# Altium integrated library Diod.IntLib: 491 symbols (part 1 of 2)
Pins are listed as number, name and electrical type; pins without a type are passive.

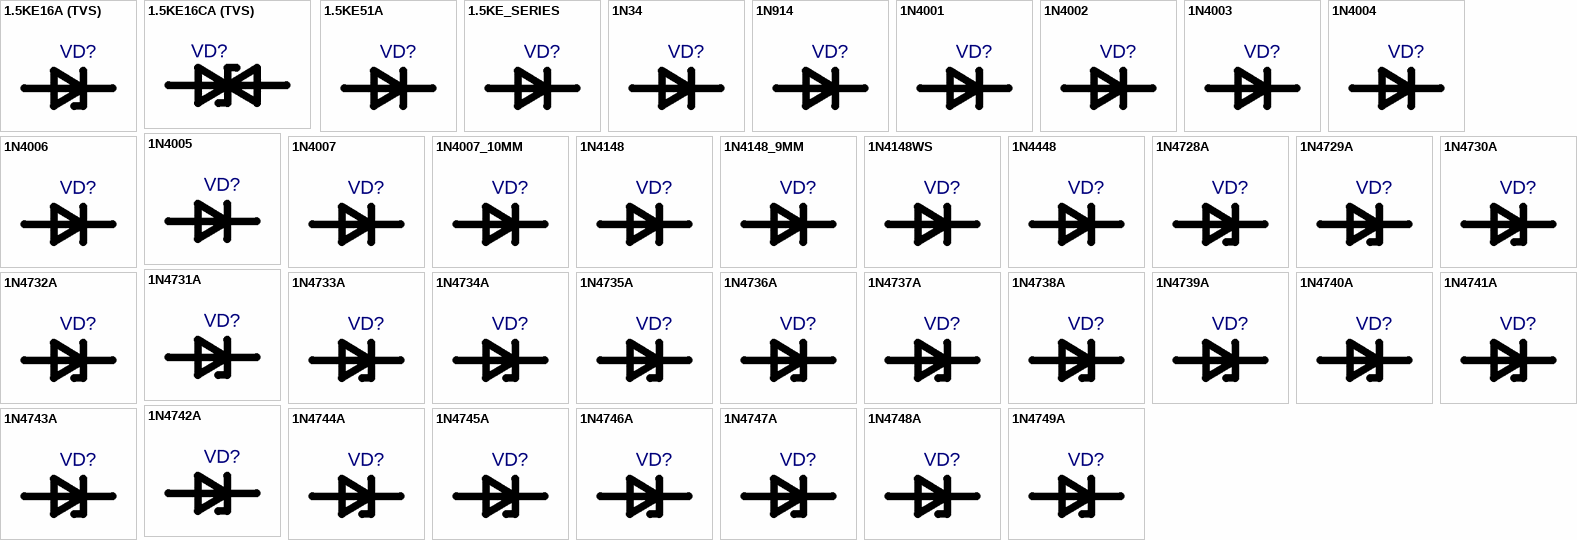
[diagram p0: symbols 1.5KE16A (TVS) to 1N4749A]

## 1.5KE16A (TVS)
designator VD?  (value not drawn)
Value: *
footprint DO-201_1.5KE16A (TVS)(Primary)
pins: A 1, K 2

## 1.5KE16CA (TVS)
designator VD?  (value not drawn)
Value: *
footprint DO-201
pins: 1, 2

## 1.5KE51A
designator VD?  (value not drawn)
Value: *
footprint DO-27_1.5KE51A(Primary)
pins: A 1, K 2

## 1.5KE_SERIES
designator VD?  (value not drawn)
Value: *
footprint DO-201_1.5KE_SERIES(Primary)
pins: A 1, K 2

## 1N34
designator VD?  (value not drawn)
Value: *
footprint DO-7_1N34(Primary)
pins: A, K

## 1N914
designator VD?  (value not drawn)
Value: *
footprint DO-35_1N914(Primary)
pins: A, K

## 1N4001
designator VD?  (value not drawn)
Value: *
footprint DO-41(DO-204AL)_1N4001(Primary)
pins: A 1, K 2

## 1N4002
designator VD?  (value not drawn)
Value: *
footprint DO-41(DO-204AL)_1N4002(Primary)
pins: A 1, K 2

## 1N4003
designator VD?  (value not drawn)
Value: *
footprint DO-41(DO-204AL)_1N4003(Primary)
pins: A 1, K 2

## 1N4004
designator VD?  (value not drawn)
Value: *
footprint DO-41(DO-204AL)_1N4004(Primary)
pins: A 1, K 2

## 1N4005
designator VD?  (value not drawn)
Value: *
footprint DO-41(DO-204AL)_1N4005(Primary)
pins: A 1, K 2

## 1N4006
designator VD?  (value not drawn)
Value: *
footprint DO-41(DO-204AL)_1N4006(Primary)
pins: A 1, K 2

## 1N4007
designator VD?  (value not drawn)
Value: *
footprint DO-41(DO-204AL)_1N4007(Primary)
pins: A 1, K 2

## 1N4007_10MM
designator VD?  (value not drawn)
Value: *
footprint DO-41(DO-204AL)_10MM_1N4007_10MM(Primary)
pins: A, K

## 1N4148
designator VD?  (value not drawn)
Value: *
footprint SOD27_1N4148(Primary)
pins: A, K

## 1N4148_9MM
designator VD?  (value not drawn)
Value: *
footprint SOD27_9MM_1N4148_9MM(Primary)
pins: A, K

## 1N4148WS
designator VD?  (value not drawn)
Value: *
footprint SOD-323_1N4148WS(Primary)
pins: A, K

## 1N4448
designator VD?  (value not drawn)
Value: *
footprint SOD27_1N4448(Primary)
pins: A, K

## 1N4728A
designator VD?  (value not drawn)
Value: *
footprint DO-41(DO-204AL)
pins: 1 A, 2 K

## 1N4729A
designator VD?  (value not drawn)
Value: *
footprint DO-41(DO-204AL)
pins: 1 A, 2 K

## 1N4730A
designator VD?  (value not drawn)
Value: *
footprint DO-41(DO-204AL)
pins: 1 A, 2 K

## 1N4731A
designator VD?  (value not drawn)
Value: *
footprint DO-41(DO-204AL)
pins: 1 A, 2 K

## 1N4732A
designator VD?  (value not drawn)
Value: *
footprint DO-41(DO-204AL)
pins: 1 A, 2 K

## 1N4733A
designator VD?  (value not drawn)
Value: *
footprint DO-41(DO-204AL)
pins: 1 A, 2 K

## 1N4734A
designator VD?  (value not drawn)
Value: *
footprint DO-41(DO-204AL)
pins: 1 A, 2 K

## 1N4735A
designator VD?  (value not drawn)
Value: *
footprint DO-41(DO-204AL)
pins: 1 A, 2 K

## 1N4736A
designator VD?  (value not drawn)
Value: *
footprint DO-41(DO-204AL)
pins: 1 A, 2 K

## 1N4737A
designator VD?  (value not drawn)
Value: *
footprint DO-41(DO-204AL)
pins: 1 A, 2 K

## 1N4738A
designator VD?  (value not drawn)
Value: *
footprint DO-41(DO-204AL)
pins: 1 A, 2 K

## 1N4739A
designator VD?  (value not drawn)
Value: *
footprint DO-41(DO-204AL)
pins: 1 A, 2 K

## 1N4740A
designator VD?  (value not drawn)
Value: *
footprint DO-41(DO-204AL)
pins: 1 A, 2 K

## 1N4741A
designator VD?  (value not drawn)
Value: *
footprint DO-41(DO-204AL)
pins: 1 A, 2 K

## 1N4742A
designator VD?  (value not drawn)
Value: *
footprint DO-41(DO-204AL)
pins: 1 A, 2 K

## 1N4743A
designator VD?  (value not drawn)
Value: *
footprint DO-41(DO-204AL)
pins: 1 A, 2 K

## 1N4744A
designator VD?  (value not drawn)
Value: *
footprint DO-41(DO-204AL)
pins: 1 A, 2 K

## 1N4745A
designator VD?  (value not drawn)
Value: *
footprint DO-41(DO-204AL)
pins: 1 A, 2 K

## 1N4746A
designator VD?  (value not drawn)
Value: *
footprint DO-41(DO-204AL)
pins: 1 A, 2 K

## 1N4747A
designator VD?  (value not drawn)
Value: *
footprint DO-41(DO-204AL)
pins: 1 A, 2 K

## 1N4748A
designator VD?  (value not drawn)
Value: *
footprint DO-41(DO-204AL)
pins: 1 A, 2 K

## 1N4749A
designator VD?  (value not drawn)
Value: *
footprint DO-41(DO-204AL)
pins: 1 A, 2 K

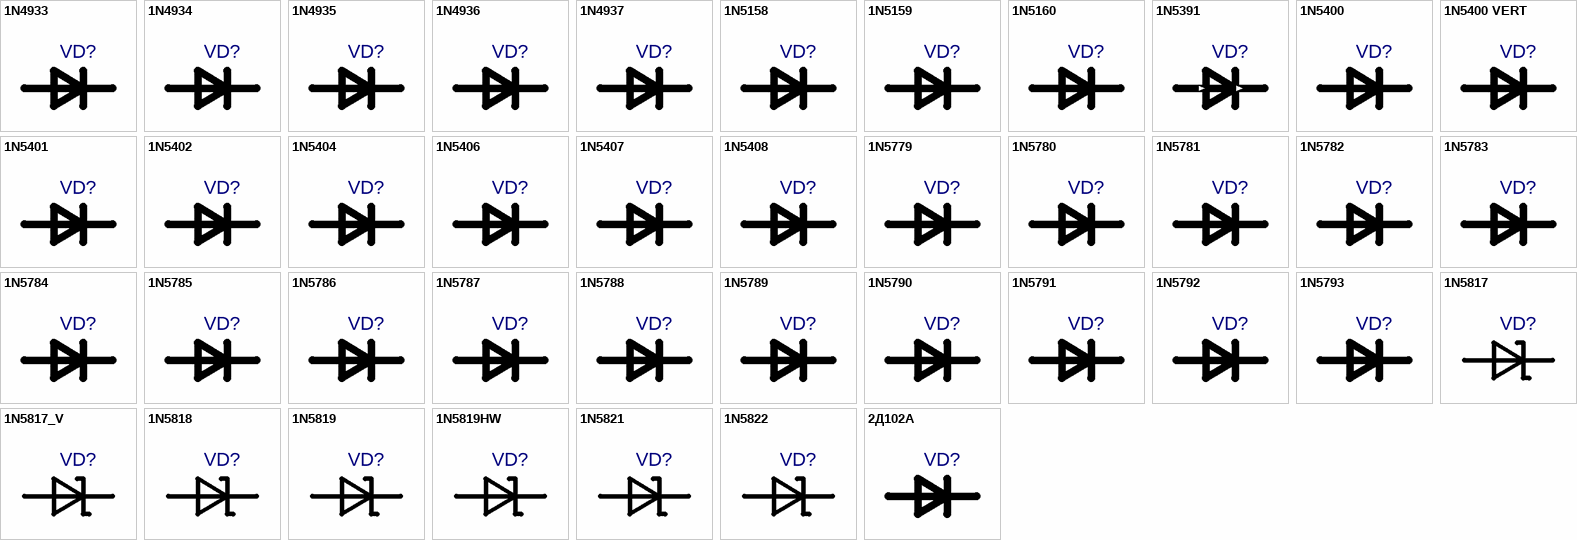
[diagram p1: symbols 1N4933 to 2Д102А]

## 1N4933
designator VD?  (value not drawn)
Value: *
footprint DO-41(DO-204AL)_1N4933(Primary)
pins: A 1, K 2

## 1N4934
designator VD?  (value not drawn)
Value: *
footprint DO-41(DO-204AL)_1N4934(Primary)
pins: A 1, K 2

## 1N4935
designator VD?  (value not drawn)
Value: *
footprint DO-41(DO-204AL)_1N4935(Primary)
pins: A 1, K 2

## 1N4936
designator VD?  (value not drawn)
Value: *
footprint DO-41(DO-204AL)_1N4936(Primary)
pins: A 1, K 2

## 1N4937
designator VD?  (value not drawn)
Value: *
footprint DO-41(DO-204AL)_1N4937(Primary)
pins: A 1, K 2

## 1N5158
designator VD?  (value not drawn)
Value: *
footprint DO-7_1N5158(Primary)
pins: A 1, K 2

## 1N5159
designator VD?  (value not drawn)
Value: *
footprint DO-7_1N5159(Primary)
pins: A 1, K 2

## 1N5160
designator VD?  (value not drawn)
Value: *
footprint DO-7_1N5160(Primary)
pins: A 1, K 2

## 1N5391
designator VD?  (value not drawn)
Value: *
footprint DO-15_1N5391(Primary)
pins: A (in), K (out)

## 1N5400
designator VD?  (value not drawn)
Value: *
footprint DO-27_1N5400(Primary)
pins: A 1, K 2

## 1N5400 VERT
designator VD?  (value not drawn)
Value: *
footprint DO-201AD VERT_1N5400 VERT(Primary)
pins: A, K

## 1N5401
designator VD?  (value not drawn)
Value: *
footprint DO-27_1N5401(Primary)
pins: A 1, K 2

## 1N5402
designator VD?  (value not drawn)
Value: *
footprint DO-201AD_1N5402(Primary)
pins: A, K

## 1N5404
designator VD?  (value not drawn)
Value: *
footprint DO-27_1N5404(Primary)
pins: A 1, K 2

## 1N5406
designator VD?  (value not drawn)
Value: *
footprint DO-27_1N5406(Primary)
pins: A 1, K 2

## 1N5407
designator VD?  (value not drawn)
Value: *
footprint DO-27_1N5407(Primary)
pins: A 1, K 2

## 1N5408
designator VD?  (value not drawn)
Value: *
footprint DO-27_1N5408(Primary)
pins: A 1, K 2

## 1N5779
designator VD?  (value not drawn)
Value: *
footprint DO-7_1N5779(Primary)
pins: A 1, K 2

## 1N5780
designator VD?  (value not drawn)
Value: *
footprint DO-7_1N5780(Primary)
pins: A 1, K 2

## 1N5781
designator VD?  (value not drawn)
Value: *
footprint DO-7_1N5781(Primary)
pins: A 1, K 2

## 1N5782
designator VD?  (value not drawn)
Value: *
footprint DO-7_1N5782(Primary)
pins: A 1, K 2

## 1N5783
designator VD?  (value not drawn)
Value: *
footprint DO-7_1N5783(Primary)
pins: A 1, K 2

## 1N5784
designator VD?  (value not drawn)
Value: *
footprint DO-7_1N5784(Primary)
pins: A 1, K 2

## 1N5785
designator VD?  (value not drawn)
Value: *
footprint DO-7_1N5785(Primary)
pins: A 1, K 2

## 1N5786
designator VD?  (value not drawn)
Value: *
footprint DO-7_1N5786(Primary)
pins: A 1, K 2

## 1N5787
designator VD?  (value not drawn)
Value: *
footprint DO-7_1N5787(Primary)
pins: A 1, K 2

## 1N5788
designator VD?  (value not drawn)
Value: *
footprint DO-7_1N5788(Primary)
pins: A 1, K 2

## 1N5789
designator VD?  (value not drawn)
Value: *
footprint DO-7_1N5789(Primary)
pins: A 1, K 2

## 1N5790
designator VD?  (value not drawn)
Value: *
footprint DO-7_1N5790(Primary)
pins: A 1, K 2

## 1N5791
designator VD?  (value not drawn)
Value: *
footprint DO-7_1N5791(Primary)
pins: A 1, K 2

## 1N5792
designator VD?  (value not drawn)
Value: *
footprint DO-7_1N5792(Primary)
pins: A 1, K 2

## 1N5793
designator VD?  (value not drawn)
Value: *
footprint DO-7_1N5793(Primary)
pins: A 1, K 2

## 1N5817
designator VD?  (value not drawn)
Value: *
footprint DO-41(DO-204AL)_10MM_1N5817(Primary)
pins: A, K

## 1N5817_V
designator VD?  (value not drawn)
Value: *
footprint DO-41(DO-204AL)_V_1N5817_V(Primary)
pins: A 1, K 2

## 1N5818
designator VD?  (value not drawn)
Value: *
footprint DO-41(DO-204AL)_10MM_1N5818(Primary)
pins: A, K

## 1N5819
designator VD?  (value not drawn)
Value: *
footprint DO-41(DO-204AL)_10MM_1N5819(Primary)
pins: A, K

## 1N5819HW
designator VD?  (value not drawn)
Value: *
footprint SOD-123_1N5819HW(Primary)
pins: A 1, K 2

## 1N5821
designator VD?  (value not drawn)
Value: *
footprint DO-27_1N5821(Primary)
pins: A, K

## 1N5822
designator VD?  (value not drawn)
Value: *
footprint DO-27_1N5822(Primary)
pins: A, K

## 2Д102А
designator VD?  (value not drawn)
Value: *
footprint КД102_2Д102А(Primary)
pins: A, K

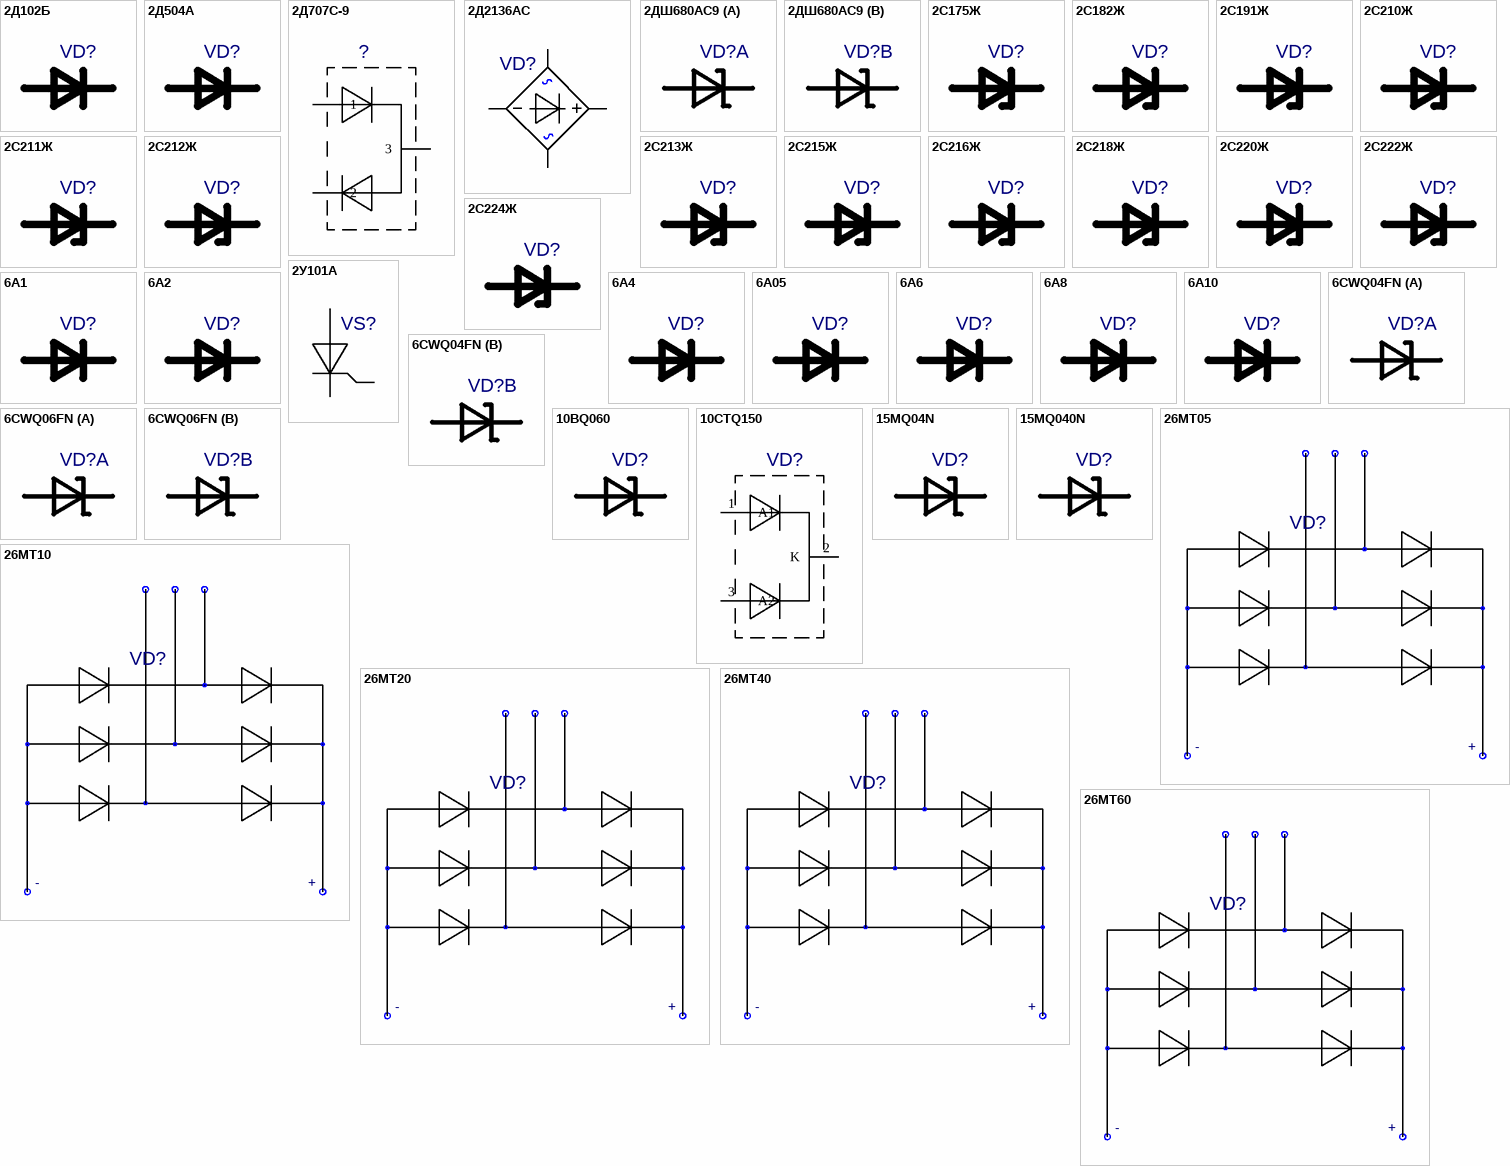
[diagram p2: symbols 2Д102Б to 26MT60]

## 2Д102Б
designator VD?  (value not drawn)
Value: *
footprint КД102_2Д102Б(Primary)
pins: A, K

## 2Д504А
designator VD?  (value not drawn)
Value: *
footprint 2Д504А-0412_2Д504А(Primary)
pins: A, K

## 2Д707С-9
designator ?  (value not drawn)
Author: pcbdesigner.ru; Value: *
footprint SOT-23
pins: 1, 2, 3

## 2Д2136АС
designator VD?  (value not drawn)
Value: *
footprint 2Д2136АС
pins: 1, 2 hidden, 3, 4 -, 5 +

## 2ДШ680АС9
designator VD?  (value not drawn)
Value: *
footprint KT-94-3
pins on every part: 1 K
part A pins: 2 A
part B pins: 3 A

## 2С175Ж
designator VD?  (value not drawn)
Value: *
footprint KD-2_2С175Ж(Primary)
pins: A 1, K 2

## 2С182Ж
designator VD?  (value not drawn)
Value: *
footprint KD-2_2С182Ж(Primary)
pins: A 1, K 2

## 2С191Ж
designator VD?  (value not drawn)
Value: *
footprint KD-2_2С191Ж(Primary)
pins: A 1, K 2

## 2С210Ж
designator VD?  (value not drawn)
Value: *
footprint KD-2_2С210Ж(Primary)
pins: A 1, K 2

## 2С211Ж
designator VD?  (value not drawn)
Value: *
footprint KD-2_2С211Ж(Primary)
pins: A 1, K 2

## 2С212Ж
designator VD?  (value not drawn)
Value: *
footprint KD-2_2С212Ж(Primary)
pins: A 1, K 2

## 2С213Ж
designator VD?  (value not drawn)
Value: *
footprint KD-2_2С213Ж(Primary)
pins: A 1, K 2

## 2С215Ж
designator VD?  (value not drawn)
Value: *
footprint KD-2_2С215Ж(Primary)
pins: A 1, K 2

## 2С216Ж
designator VD?  (value not drawn)
Value: *
footprint KD-2_2С216Ж(Primary)
pins: A 1, K 2

## 2С218Ж
designator VD?  (value not drawn)
Value: *
footprint KD-2_2С218Ж(Primary)
pins: A 1, K 2

## 2С220Ж
designator VD?  (value not drawn)
Value: *
footprint KD-2_2С220Ж(Primary)
pins: A 1, K 2

## 2С222Ж
designator VD?  (value not drawn)
Value: *
footprint KD-2_2С222Ж(Primary)
pins: A 1, K 2

## 2С224Ж
designator VD?  (value not drawn)
Value: *
footprint KD-2_2С224Ж(Primary)
pins: A 1, K 2

## 2У101А
designator VS?  (value not drawn)
Value: *
footprint 2У101А
pins: 1 K, 2 A, 3 UE

## 6A1
designator VD?  (value not drawn)
Value: *
footprint R-6_6A1(Primary)
pins: A 1, K 2

## 6A2
designator VD?  (value not drawn)
Value: *
footprint R-5_6A2(Primary)
pins: A, K

## 6A4
designator VD?  (value not drawn)
Value: *
footprint R-5_6A4(Primary)
pins: A, K

## 6A05
designator VD?  (value not drawn)
Value: *
footprint R-5_6A05(Primary)
pins: A, K

## 6A6
designator VD?  (value not drawn)
Value: *
footprint R-5_6A6(Primary)
pins: A, K

## 6A8
designator VD?  (value not drawn)
Value: *
footprint R-5_6A8(Primary)
pins: A, K

## 6A10
designator VD?  (value not drawn)
Value: *
footprint R-5_6A10(Primary)
pins: A, K

## 6CWQ04FN
designator VD?  (value not drawn)
Value: *
footprint DPAK
pins on every part: 2 K
part A pins: 1 A
part B pins: 3 A

## 6CWQ06FN
designator VD?  (value not drawn)
Value: *
footprint DPAK
pins on every part: 2 K
part A pins: 1 A
part B pins: 3 A

## 10BQ060
designator VD?  (value not drawn)
Value: *
footprint 10BQ060
pins: 1 A, 2 K

## 10CTQ150
designator VD?  (value not drawn)
Author: pcbdesigner.ru; Value: *
footprint TO-220
pins: 1 A1, 2 K, 3 A2, 4 hidden

## 15MQ04N
designator VD?  (value not drawn)
Value: *
footprint SMA
pins: 1 K, 2 A

## 15MQ040N
designator VD?  (value not drawn)
Value: *
footprint SMA
pins: 1 K, 2 A

## 26MT05
designator VD?  (value not drawn)
Author: pcbdesigner.ru; Value: *
footprint D-63_26MT05(Primary)
pins: 6 hidden, AC1, AC2, AC3, minus, plus
text: -; +

## 26MT10
designator VD?  (value not drawn)
Author: pcbdesigner.ru; Value: *
footprint D-63_26MT10(Primary)
pins: 6 hidden, AC1, AC2, AC3, minus, plus
text: -; +

## 26MT20
designator VD?  (value not drawn)
Author: pcbdesigner.ru; Value: *
footprint D-63_26MT20(Primary)
pins: 6 hidden, AC1, AC2, AC3, minus, plus
text: -; +

## 26MT40
designator VD?  (value not drawn)
Author: pcbdesigner.ru; Value: *
footprint D-63_26MT40(Primary)
pins: 6 hidden, AC1, AC2, AC3, minus, plus
text: -; +

## 26MT60
designator VD?  (value not drawn)
Author: pcbdesigner.ru; Value: *
footprint D-63_26MT60(Primary)
pins: 6 hidden, AC1, AC2, AC3, minus, plus
text: -; +

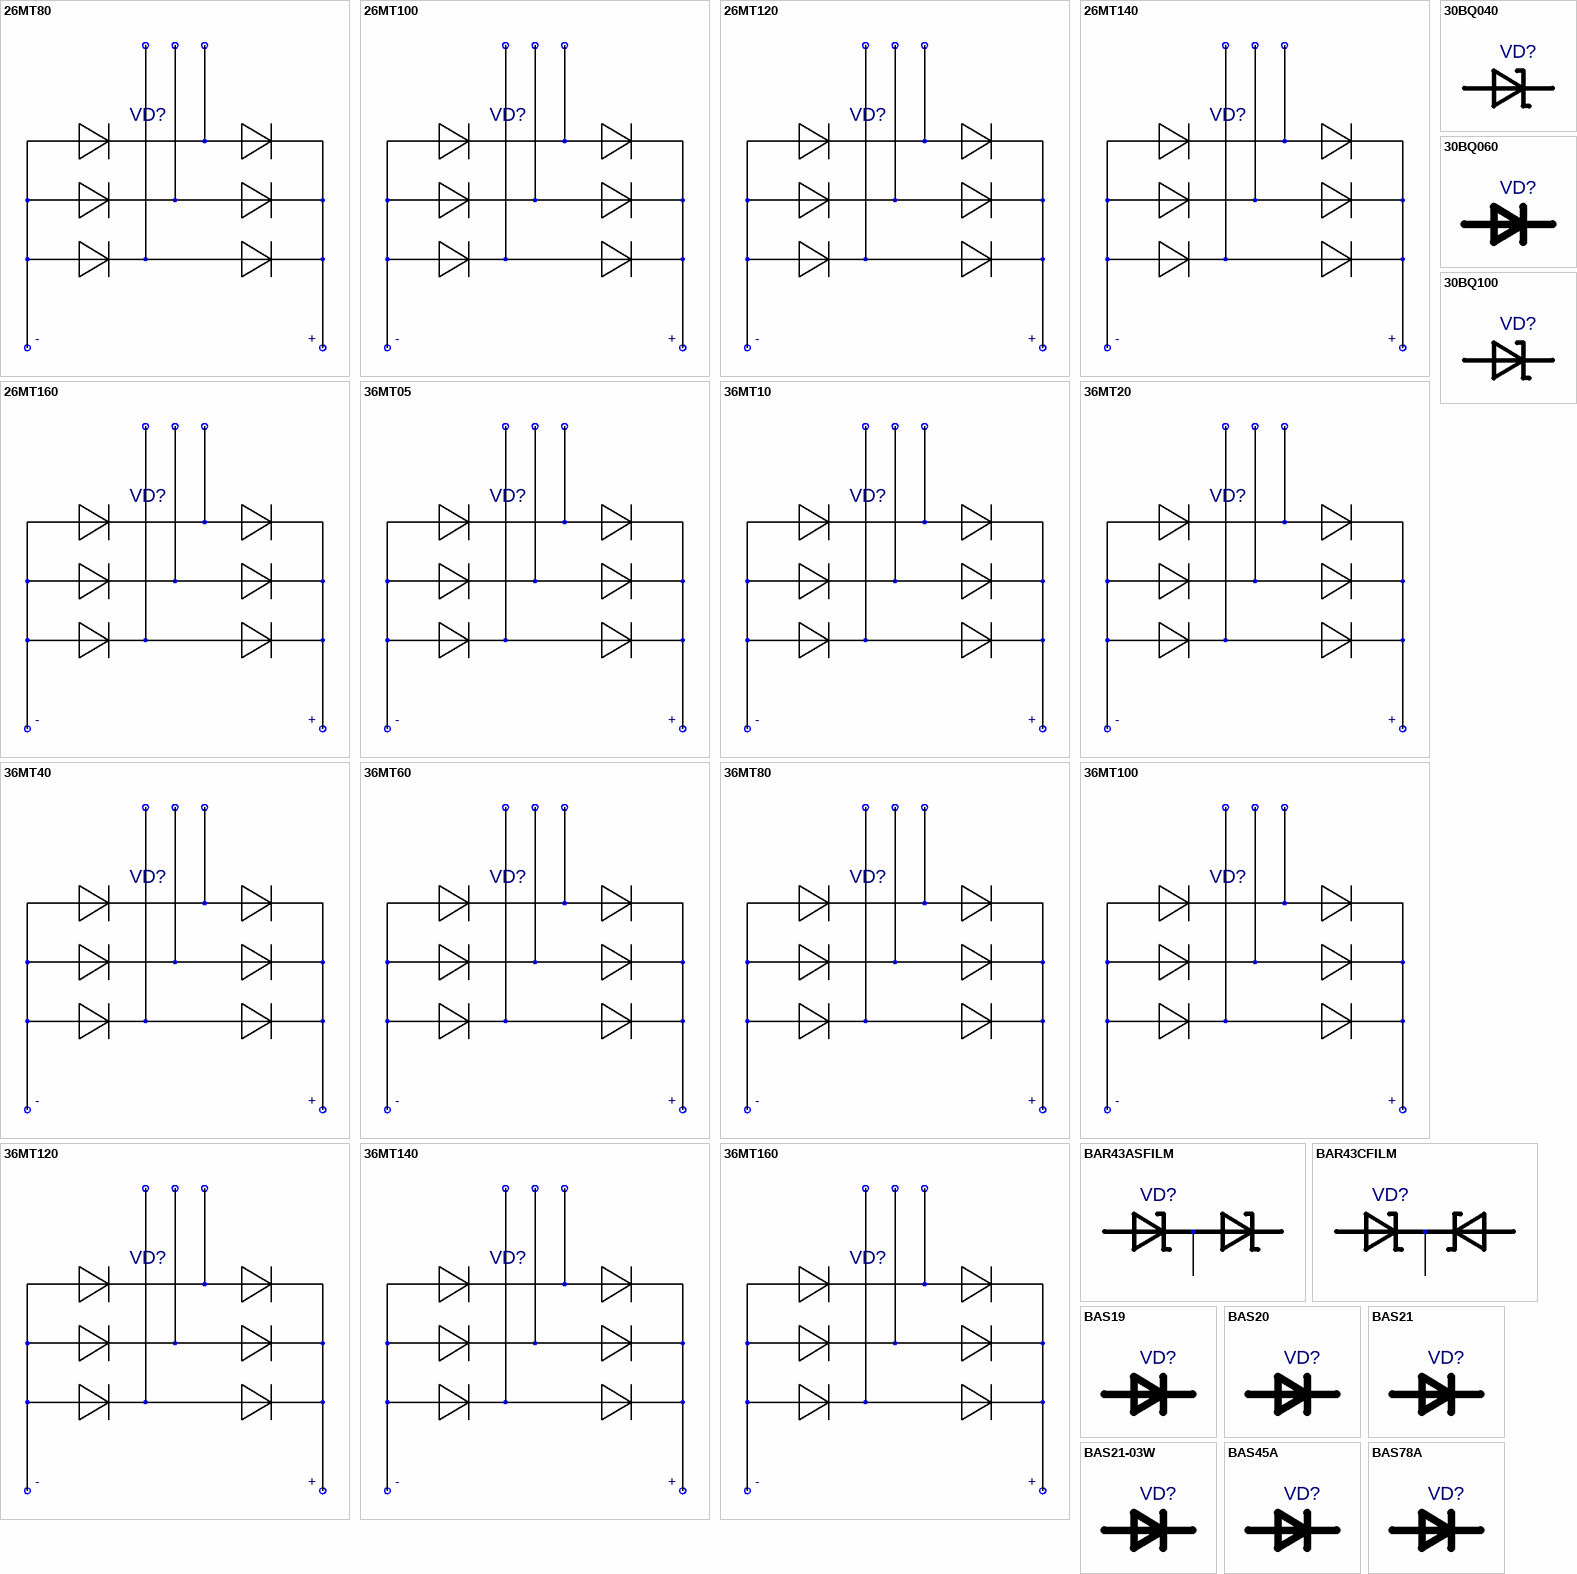
[diagram p3: symbols 26MT80 to BAS78A]

## 26MT80
designator VD?  (value not drawn)
Author: pcbdesigner.ru; Value: *
footprint D-63_26MT80(Primary)
pins: 6 hidden, AC1, AC2, AC3, minus, plus
text: -; +

## 26MT100
designator VD?  (value not drawn)
Author: pcbdesigner.ru; Value: *
footprint D-63_26MT100(Primary)
pins: 6 hidden, AC1, AC2, AC3, minus, plus
text: -; +

## 26MT120
designator VD?  (value not drawn)
Author: pcbdesigner.ru; Value: *
footprint D-63_26MT120(Primary)
pins: 6 hidden, AC1, AC2, AC3, minus, plus
text: -; +

## 26MT140
designator VD?  (value not drawn)
Author: pcbdesigner.ru; Value: *
footprint D-63_26MT140(Primary)
pins: 6 hidden, AC1, AC2, AC3, minus, plus
text: -; +

## 26MT160
designator VD?  (value not drawn)
Author: pcbdesigner.ru; Value: *
footprint D-63_26MT160(Primary)
pins: 6 hidden, AC1, AC2, AC3, minus, plus
text: -; +

## 30BQ040
designator VD?  (value not drawn)
Value: *
footprint SMC
pins: 1 A, 2 K

## 30BQ060
designator VD?  (value not drawn)
Value: *
footprint SMC
pins: 1 A, 2 K

## 30BQ100
designator VD?  (value not drawn)
Value: *
footprint SMC-1
pins: 1 A, 2 K

## 36MT05
designator VD?  (value not drawn)
Author: pcbdesigner.ru; Value: *
footprint D-63_36MT05(Primary)
pins: 6 hidden, AC1, AC2, AC3, minus, plus
text: -; +

## 36MT10
designator VD?  (value not drawn)
Author: pcbdesigner.ru; Value: *
footprint D-63_36MT10(Primary)
pins: 6 hidden, AC1, AC2, AC3, minus, plus
text: -; +

## 36MT20
designator VD?  (value not drawn)
Author: pcbdesigner.ru; Value: *
footprint D-63_36MT20(Primary)
pins: 6 hidden, AC1, AC2, AC3, minus, plus
text: -; +

## 36MT40
designator VD?  (value not drawn)
Author: pcbdesigner.ru; Value: *
footprint D-63_36MT40(Primary)
pins: 6 hidden, AC1, AC2, AC3, minus, plus
text: -; +

## 36MT60
designator VD?  (value not drawn)
Author: pcbdesigner.ru; Value: *
footprint D-63_36MT60(Primary)
pins: 6 hidden, AC1, AC2, AC3, minus, plus
text: -; +

## 36MT80
designator VD?  (value not drawn)
Author: pcbdesigner.ru; Value: *
footprint D-63_36MT80(Primary)
pins: 6 hidden, AC1, AC2, AC3, minus, plus
text: -; +

## 36MT100
designator VD?  (value not drawn)
Author: pcbdesigner.ru; Value: *
footprint D-63_36MT100(Primary)
pins: 6 hidden, AC1, AC2, AC3, minus, plus
text: -; +

## 36MT120
designator VD?  (value not drawn)
Author: pcbdesigner.ru; Value: *
footprint D-63_36MT120(Primary)
pins: 6 hidden, AC1, AC2, AC3, minus, plus
text: -; +

## 36MT140
designator VD?  (value not drawn)
Author: pcbdesigner.ru; Value: *
footprint D-63_36MT140(Primary)
pins: 6 hidden, AC1, AC2, AC3, minus, plus
text: -; +

## 36MT160
designator VD?  (value not drawn)
Author: pcbdesigner.ru; Value: *
footprint D-63_36MT160(Primary)
pins: 6 hidden, AC1, AC2, AC3, minus, plus
text: -; +

## BAR43ASFILM
designator VD?  (value not drawn)
Value: *
footprint SOT-23
pins: 1, 2, 3

## BAR43CFILM
designator VD?  (value not drawn)
Value: *
footprint SOT-23
pins: 1, 2, 3

## BAS19
designator VD?  (value not drawn)
Value: *
footprint SOT-23
pins: 1 A, 2 hidden, 3 K

## BAS20
designator VD?  (value not drawn)
Value: *
footprint SOT-23
pins: 1 A, 2 hidden, 3 K

## BAS21
designator VD?  (value not drawn)
Value: *
footprint SOT-23
pins: 1 A, 2 hidden, 3 K

## BAS21-03W
designator VD?  (value not drawn)
Value: *
footprint SOD-323_BAS21-03W(Primary)
pins: A 1, K 2

## BAS45A
designator VD?  (value not drawn)
Value: *
footprint SOD68_BAS45A(Primary)
pins: A, K

## BAS78A
designator VD?  (value not drawn)
Value: *
footprint SOT-223
pins: 1 A, 2 K, 3 hidden, 4 hidden

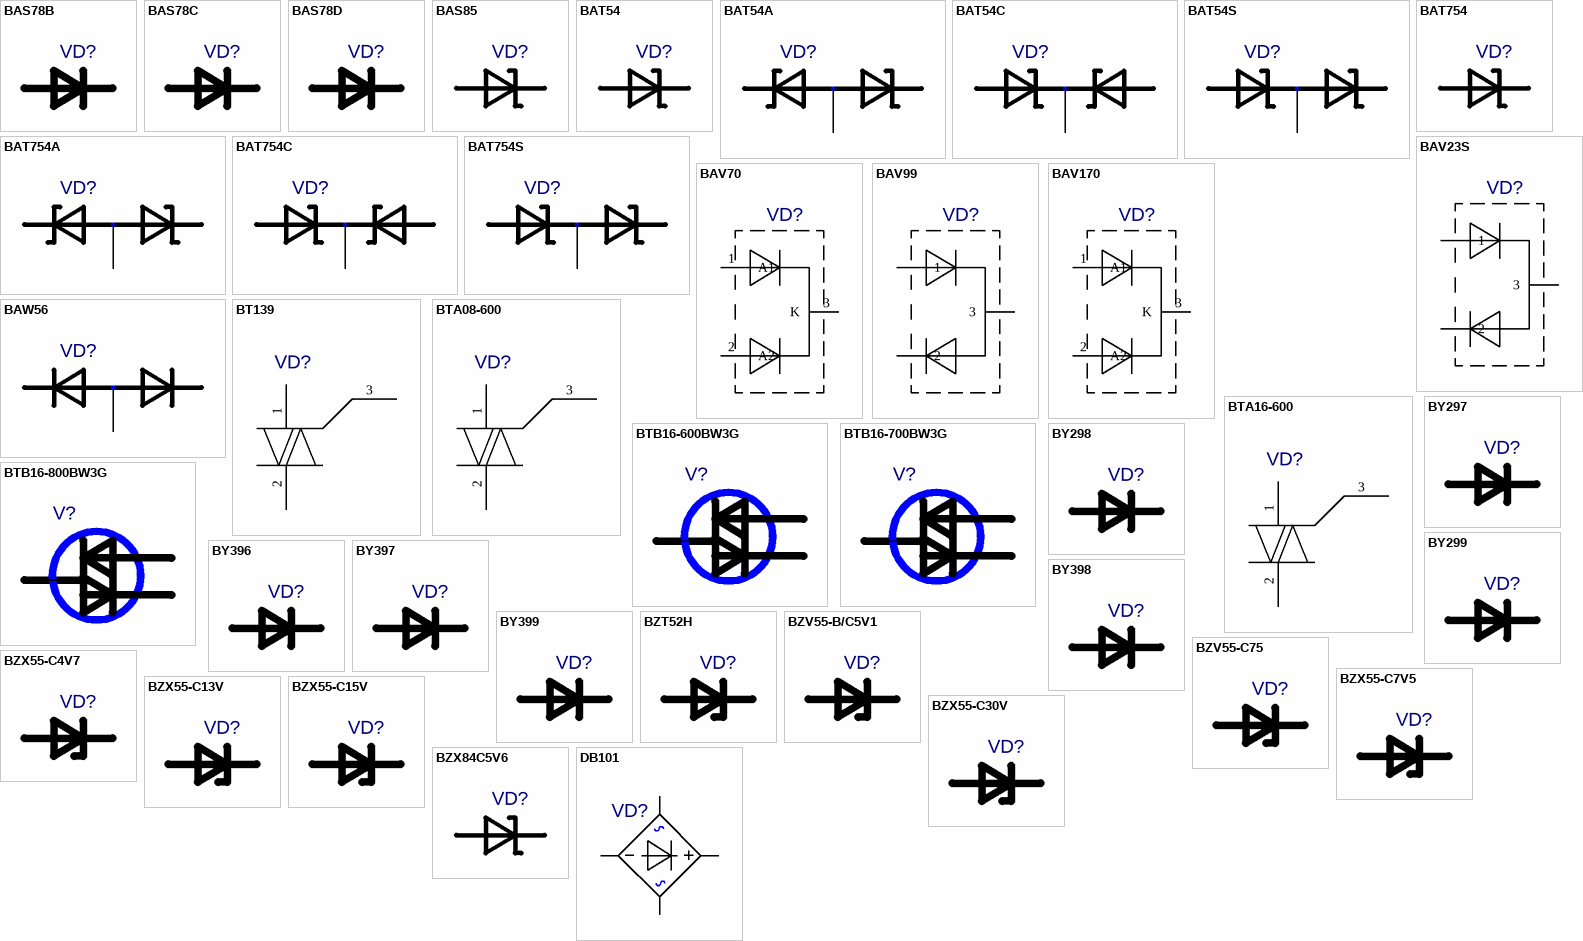
[diagram p4: symbols BAS78B to DB101]

## BAS78B
designator VD?  (value not drawn)
Value: *
footprint SOT-223
pins: 1 A, 2 K, 3 hidden, 4 hidden

## BAS78C
designator VD?  (value not drawn)
Value: *
footprint SOT-223
pins: 1 A, 2 K, 3 hidden, 4 hidden

## BAS78D
designator VD?  (value not drawn)
Value: *
footprint SOT-223
pins: 1 A, 2 K, 3 hidden, 4 hidden

## BAS85
designator VD?  (value not drawn)
Value: *
footprint SOD80
pins: 1 A, 2 K

## BAT54
designator VD?  (value not drawn)
Value: *
footprint SOT-23
pins: 1 A, 2 hidden, 3 K

## BAT54A
designator VD?  (value not drawn)
Value: *
footprint SOT-23
pins: 1, 2, 3

## BAT54C
designator VD?  (value not drawn)
Value: *
footprint SOT-23
pins: 1, 2, 3

## BAT54S
designator VD?  (value not drawn)
Value: *
footprint SOT-23
pins: 1, 2, 3

## BAT754
designator VD?  (value not drawn)
Value: *
footprint SOT-23
pins: 1 A, 2 hidden, 3 K

## BAT754A
designator VD?  (value not drawn)
Value: *
footprint SOT-23
pins: 1, 2, 3

## BAT754C
designator VD?  (value not drawn)
Value: *
footprint SOT-23
pins: 1, 2, 3

## BAT754S
designator VD?  (value not drawn)
Value: *
footprint SOT-23
pins: 1, 2, 3

## BAV23S
designator VD?  (value not drawn)
Author: pcbdesigner.ru; Value: *
footprint SOT-23
pins: 1, 2, 3

## BAV70
designator VD?  (value not drawn)
Author: pcbdesigner.ru; Value: *
footprint SOT-23
pins: 1 A1, 2 A2, 3 K

## BAV99
designator VD?  (value not drawn)
Author: pcbdesigner.ru; Value: *
footprint SOT-23
pins: 1, 2, 3

## BAV170
designator VD?  (value not drawn)
Author: pcbdesigner.ru; Value: *
footprint SOT-23
pins: 1 A1, 2 A2, 3 K

## BAW56
designator VD?  (value not drawn)
Value: *
footprint SOT-23
pins: 1, 2, 3

## BT139
designator VD?  (value not drawn)
Value: *
footprint TO220-AB-VERT
pins: 1 E1, 2 E2, 3 Ue

## BTA08-600
designator VD?  (value not drawn)
Value: *
footprint TO220-AB-VERT
pins: 1 E1, 2 E2, 3 Ue

## BTA16-600
designator VD?  (value not drawn)
Value: *
footprint TO220-AB-VERT
pins: 1 E1, 2 E2, 3 Ue

## BTB16-600BW3G
designator V?  (value not drawn)
Value: *
footprint TO-220
pins: 1 MT1, 2 MT2, 3 G

## BTB16-700BW3G
designator V?  (value not drawn)
Value: *
footprint TO-220
pins: 1 MT1, 2 MT2, 3 G

## BTB16-800BW3G
designator V?  (value not drawn)
Value: *
footprint TO-220
pins: 1 MT1, 2 MT2, 3 G

## BY297
designator VD?  (value not drawn)
Value: *
footprint DO-15_BY297(Primary)
pins: A 1, K 2

## BY298
designator VD?  (value not drawn)
Value: *
footprint DO-15_BY298(Primary)
pins: A 1, K 2

## BY299
designator VD?  (value not drawn)
Value: *
footprint DO-15_BY299(Primary)
pins: A 1, K 2

## BY396
designator VD?  (value not drawn)
Value: *
footprint DO-27_BY396(Primary)
pins: A 1, K 2

## BY397
designator VD?  (value not drawn)
Value: *
footprint DO-27_BY397(Primary)
pins: A 1, K 2

## BY398
designator VD?  (value not drawn)
Value: *
footprint DO-27_BY398(Primary)
pins: A 1, K 2

## BY399
designator VD?  (value not drawn)
Value: *
footprint DO-27_BY399(Primary)
pins: A 1, K 2

## BZT52H
designator VD?  (value not drawn)
Value: *
footprint SOD-123L
pins: 1 A, 2 K

## BZV55-B/C5V1
designator VD?  (value not drawn)
Value: *
footprint SOD80C
pins: 1 A, 2 K

## BZV55-C75
designator VD?  (value not drawn)
Value: *
footprint SOD80C
pins: 1 A, 2 K

## BZX55-C4V7
designator VD?  (value not drawn)
Value: *
footprint DO-35_BZX55-C4V7(Primary)
pins: A, K

## BZX55-C7V5
designator VD?  (value not drawn)
Value: *
footprint DO-35_BZX55-C7V5(Primary)
pins: A, K

## BZX55-C13V
designator VD?  (value not drawn)
Value: *
footprint DO-35_BZX55-C13V(Primary)
pins: A, K

## BZX55-C15V
designator VD?  (value not drawn)
Value: *
footprint DO-35_BZX55-C15V(Primary)
pins: A, K

## BZX55-C30V
designator VD?  (value not drawn)
Value: *
footprint DO-35_BZX55-C30V(Primary)
pins: A, K

## BZX84C5V6
designator VD?  (value not drawn)
Value: *
footprint SOT-23
pins: 1 A, 2 hidden, 3 K

## DB101
designator VD?  (value not drawn)
Value: *
footprint DB1
pins: 1 +, 2 -, 3, 4

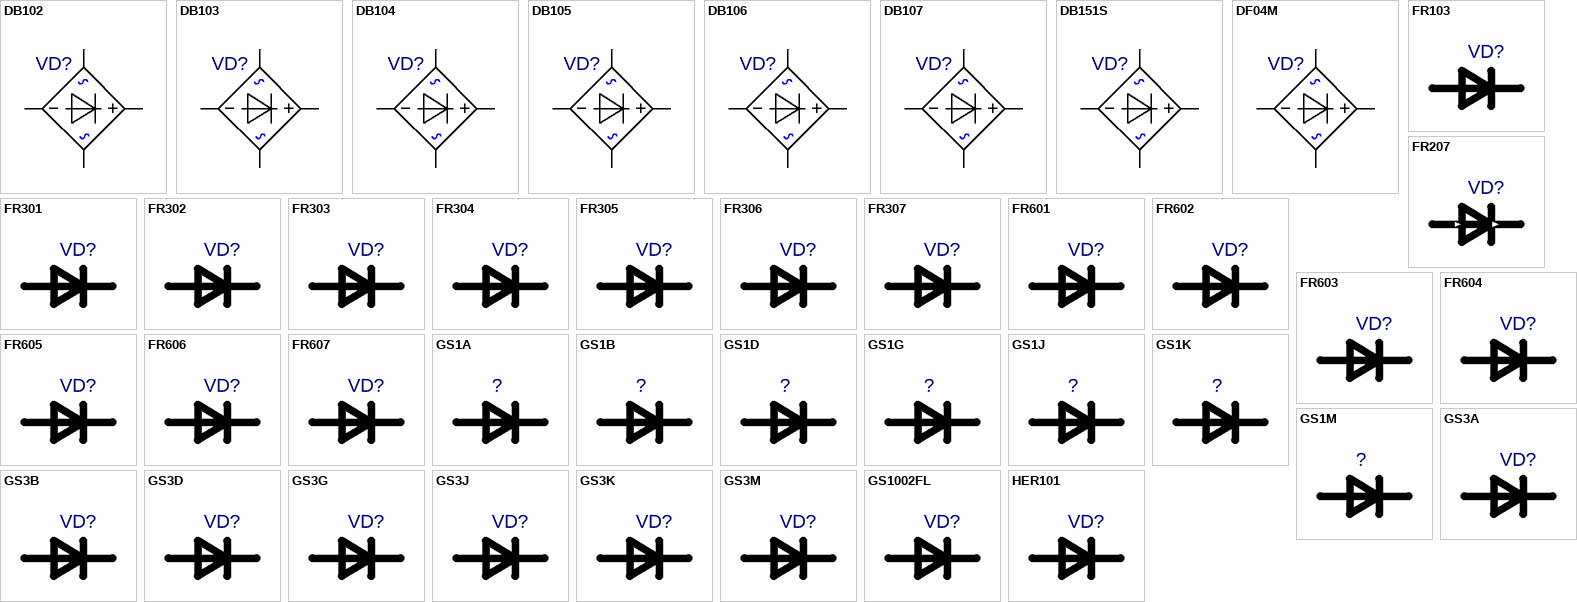
[diagram p5: symbols DB102 to HER101]

## DB102
designator VD?  (value not drawn)
Value: *
footprint DB1
pins: 1 +, 2 -, 3, 4

## DB103
designator VD?  (value not drawn)
Value: *
footprint DB1
pins: 1 +, 2 -, 3, 4

## DB104
designator VD?  (value not drawn)
Value: *
footprint DB1
pins: 1 +, 2 -, 3, 4

## DB105
designator VD?  (value not drawn)
Value: *
footprint DB1
pins: 1 +, 2 -, 3, 4

## DB106
designator VD?  (value not drawn)
Value: *
footprint DB1
pins: 1 +, 2 -, 3, 4

## DB107
designator VD?  (value not drawn)
Value: *
footprint DB1
pins: 1 +, 2 -, 3, 4

## DB151S
designator VD?  (value not drawn)
Value: *
footprint MB4S
pins: 1 +, 2 -, 3, 4

## DF04M
designator VD?  (value not drawn)
Value: *
footprint DB1
pins: 1 +, 2 -, 3, 4

## FR103
designator VD?  (value not drawn)
Value: *
footprint DO-41(DO-204AL)_10MM_FR103(Primary)
pins: A 1, K 2

## FR207
designator VD?  (value not drawn)
Value: *
footprint DO-15_FR207(Primary)
pins: A (in), K (out)

## FR301
designator VD?  (value not drawn)
Value: *
footprint DO-27_FR301(Primary)
pins: A 1, K 2

## FR302
designator VD?  (value not drawn)
Value: *
footprint DO-27_FR302(Primary)
pins: A 1, K 2

## FR303
designator VD?  (value not drawn)
Value: *
footprint DO-27_FR303(Primary)
pins: A 1, K 2

## FR304
designator VD?  (value not drawn)
Value: *
footprint DO-27_FR304(Primary)
pins: A 1, K 2

## FR305
designator VD?  (value not drawn)
Value: *
footprint DO-27_FR305(Primary)
pins: A 1, K 2

## FR306
designator VD?  (value not drawn)
Value: *
footprint DO-27_FR306(Primary)
pins: A 1, K 2

## FR307
designator VD?  (value not drawn)
Value: *
footprint DO-27_FR307(Primary)
pins: A 1, K 2

## FR601
designator VD?  (value not drawn)
Value: *
footprint R-6_FR601(Primary)
pins: A, K

## FR602
designator VD?  (value not drawn)
Value: *
footprint R-6_FR602(Primary)
pins: A, K

## FR603
designator VD?  (value not drawn)
Value: *
footprint R-6_FR603(Primary)
pins: A, K

## FR604
designator VD?  (value not drawn)
Value: *
footprint R-6_FR604(Primary)
pins: A, K

## FR605
designator VD?  (value not drawn)
Value: *
footprint R-6_FR605(Primary)
pins: A, K

## FR606
designator VD?  (value not drawn)
Value: *
footprint R-6_FR606(Primary)
pins: A, K

## FR607
designator VD?  (value not drawn)
Value: *
footprint R-6_FR607(Primary)
pins: A, K

## GS1A
designator ?  (value not drawn)
Value: *
footprint SMA
pins: 1 K, 2 A

## GS1B
designator ?  (value not drawn)
Value: *
footprint SMA
pins: 1 K, 2 A

## GS1D
designator ?  (value not drawn)
Value: *
footprint SMA
pins: 1 K, 2 A

## GS1G
designator ?  (value not drawn)
Value: *
footprint SMA
pins: 1 K, 2 A

## GS1J
designator ?  (value not drawn)
Value: *
footprint SMA
pins: 1 K, 2 A

## GS1K
designator ?  (value not drawn)
Value: *
footprint SMA
pins: 1 K, 2 A

## GS1M
designator ?  (value not drawn)
Value: *
footprint SMA
pins: 1 K, 2 A

## GS3A
designator VD?  (value not drawn)
Value: *
footprint SMC-1
pins: 1 A, 2 K

## GS3B
designator VD?  (value not drawn)
Value: *
footprint SMC-1
pins: 1 A, 2 K

## GS3D
designator VD?  (value not drawn)
Value: *
footprint SMC-1
pins: 1 A, 2 K

## GS3G
designator VD?  (value not drawn)
Value: *
footprint SMC-1
pins: 1 A, 2 K

## GS3J
designator VD?  (value not drawn)
Value: *
footprint SMC-1
pins: 1 A, 2 K

## GS3K
designator VD?  (value not drawn)
Value: *
footprint SMC-1
pins: 1 A, 2 K

## GS3M
designator VD?  (value not drawn)
Value: *
footprint SMC-1
pins: 1 A, 2 K

## GS1002FL
designator VD?  (value not drawn)
Value: *
footprint SOD-123L
pins: 1 A, 2 K

## HER101
designator VD?  (value not drawn)
Value: *
footprint DO-41(DO-204AL)_10MM_HER101(Primary)
pins: A 1, K 2

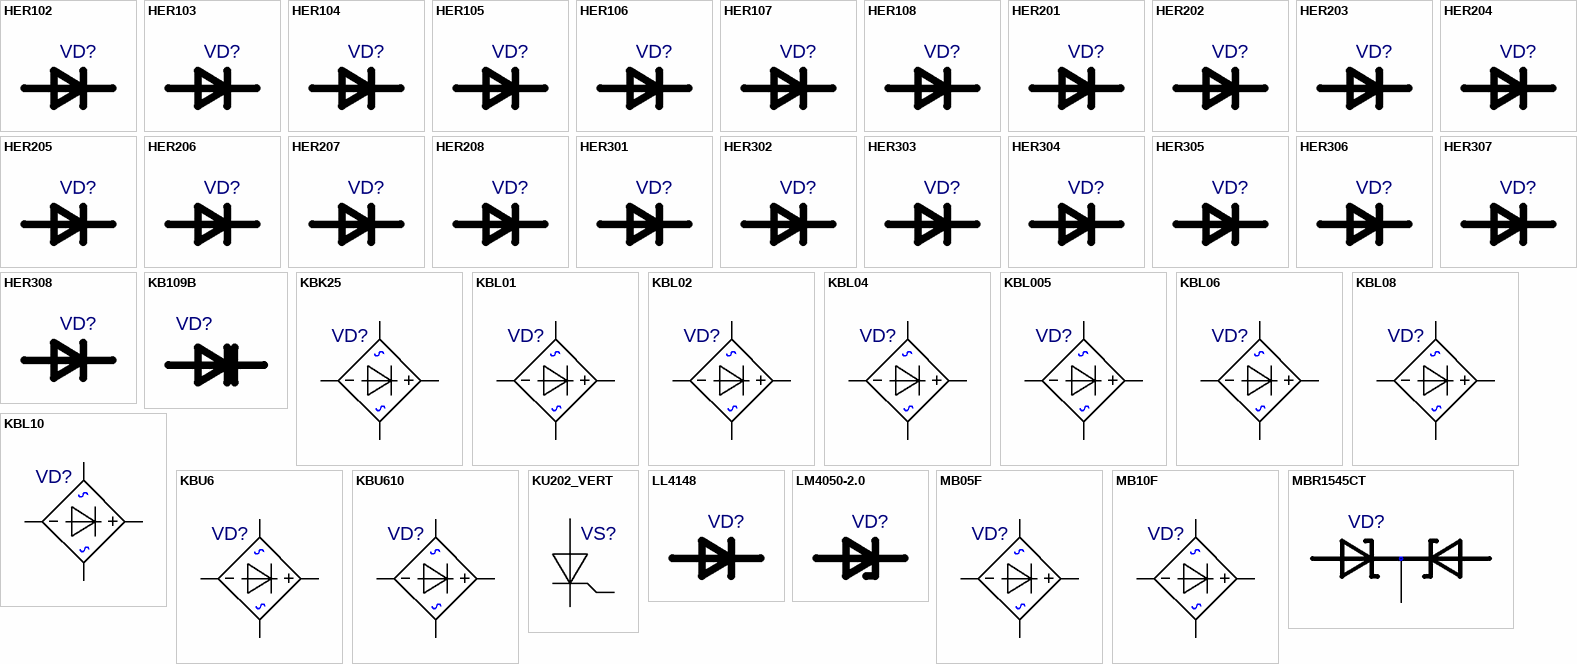
[diagram p6: symbols HER102 to MBR1545CT]

## HER102
designator VD?  (value not drawn)
Value: *
footprint DO-41(DO-204AL)_10MM_HER102(Primary)
pins: A 1, K 2

## HER103
designator VD?  (value not drawn)
Value: *
footprint DO-41(DO-204AL)_10MM_HER103(Primary)
pins: A 1, K 2

## HER104
designator VD?  (value not drawn)
Value: *
footprint DO-41(DO-204AL)_10MM_HER104(Primary)
pins: A 1, K 2

## HER105
designator VD?  (value not drawn)
Value: *
footprint DO-41(DO-204AL)_10MM_HER105(Primary)
pins: A 1, K 2

## HER106
designator VD?  (value not drawn)
Value: *
footprint DO-41(DO-204AL)_10MM_HER106(Primary)
pins: A 1, K 2

## HER107
designator VD?  (value not drawn)
Value: *
footprint DO-41(DO-204AL)_10MM_HER107(Primary)
pins: A 1, K 2

## HER108
designator VD?  (value not drawn)
Value: *
footprint DO-41(DO-204AL)_10MM_HER108(Primary)
pins: A 1, K 2

## HER201
designator VD?  (value not drawn)
Value: *
footprint DO-15_HER201(Primary)
pins: A 1, K 2

## HER202
designator VD?  (value not drawn)
Value: *
footprint DO-15_HER202(Primary)
pins: A 1, K 2

## HER203
designator VD?  (value not drawn)
Value: *
footprint DO-15_HER203(Primary)
pins: A 1, K 2

## HER204
designator VD?  (value not drawn)
Value: *
footprint DO-15_HER204(Primary)
pins: A 1, K 2

## HER205
designator VD?  (value not drawn)
Value: *
footprint DO-15_HER205(Primary)
pins: A 1, K 2

## HER206
designator VD?  (value not drawn)
Value: *
footprint DO-15_HER206(Primary)
pins: A 1, K 2

## HER207
designator VD?  (value not drawn)
Value: *
footprint DO-15_HER207(Primary)
pins: A 1, K 2

## HER208
designator VD?  (value not drawn)
Value: *
footprint DO-15_HER208(Primary)
pins: A 1, K 2

## HER301
designator VD?  (value not drawn)
Value: *
footprint DO-27_HER301(Primary)
pins: A 1, K 2

## HER302
designator VD?  (value not drawn)
Value: *
footprint DO-27_HER302(Primary)
pins: A 1, K 2

## HER303
designator VD?  (value not drawn)
Value: *
footprint DO-27_HER303(Primary)
pins: A 1, K 2

## HER304
designator VD?  (value not drawn)
Value: *
footprint DO-27_HER304(Primary)
pins: A 1, K 2

## HER305
designator VD?  (value not drawn)
Value: *
footprint DO-27_HER305(Primary)
pins: A 1, K 2

## HER306
designator VD?  (value not drawn)
Value: *
footprint DO-27_HER306(Primary)
pins: A 1, K 2

## HER307
designator VD?  (value not drawn)
Value: *
footprint DO-27_HER307(Primary)
pins: A 1, K 2

## HER308
designator VD?  (value not drawn)
Value: *
footprint DO-27_HER308(Primary)
pins: A 1, K 2

## KB109B
designator VD?  (value not drawn)
Value: *
footprint KB109B
pins: 1 A, 2 K

## KBK25
designator VD?  (value not drawn)
Value: *
footprint KBK25
pins: 1 +, 2, 3, 4 -

## KBL01
designator VD?  (value not drawn)
Value: *
footprint RS-4L
pins: 1 +, 2, 3, 4 -

## KBL02
designator VD?  (value not drawn)
Value: *
footprint RS-4L
pins: 1 +, 2, 3, 4 -

## KBL04
designator VD?  (value not drawn)
Value: *
footprint RS-4L
pins: 1 +, 2, 3, 4 -

## KBL005
designator VD?  (value not drawn)
Value: *
footprint RS-4L
pins: 1 +, 2, 3, 4 -

## KBL06
designator VD?  (value not drawn)
Value: *
footprint RS-4L
pins: 1 +, 2, 3, 4 -

## KBL08
designator VD?  (value not drawn)
Value: *
footprint RS-4L
pins: 1 +, 2, 3, 4 -

## KBL10
designator VD?  (value not drawn)
Value: *
footprint RS-4L
pins: 1 +, 2, 3, 4 -

## KBU6
designator VD?  (value not drawn)
Value: *
footprint KBU6
pins: 1 +, 2, 3, 4 -

## KBU610
designator VD?  (value not drawn)
Value: *
footprint KBU6
pins: 1 +, 2, 3, 4 -

## KU202_VERT
designator VS?  (value not drawn)
Value: *
footprint KU202_VERT_KU202_VERT(Primary)
pins: A, K, UE

## LL4148
designator VD?  (value not drawn)
Value: *
footprint SOD80
pins: 1 A, 2 K

## LM4050-2.0
designator VD?  (value not drawn)
Value: *
footprint SOT-23
pins: 1 K, 2 A, 3 hidden

## MB05F
designator VD?  (value not drawn)
Value: *
footprint MB-F
pins: 1, 2, 3 +, 4 -

## MB10F
designator VD?  (value not drawn)
Value: *
footprint MB-F
pins: 1, 2, 3 +, 4 -

## MBR1545CT
designator VD?  (value not drawn)
Value: *
footprint TO-220
pins: 1, 2 3, 3 2, 4 hidden

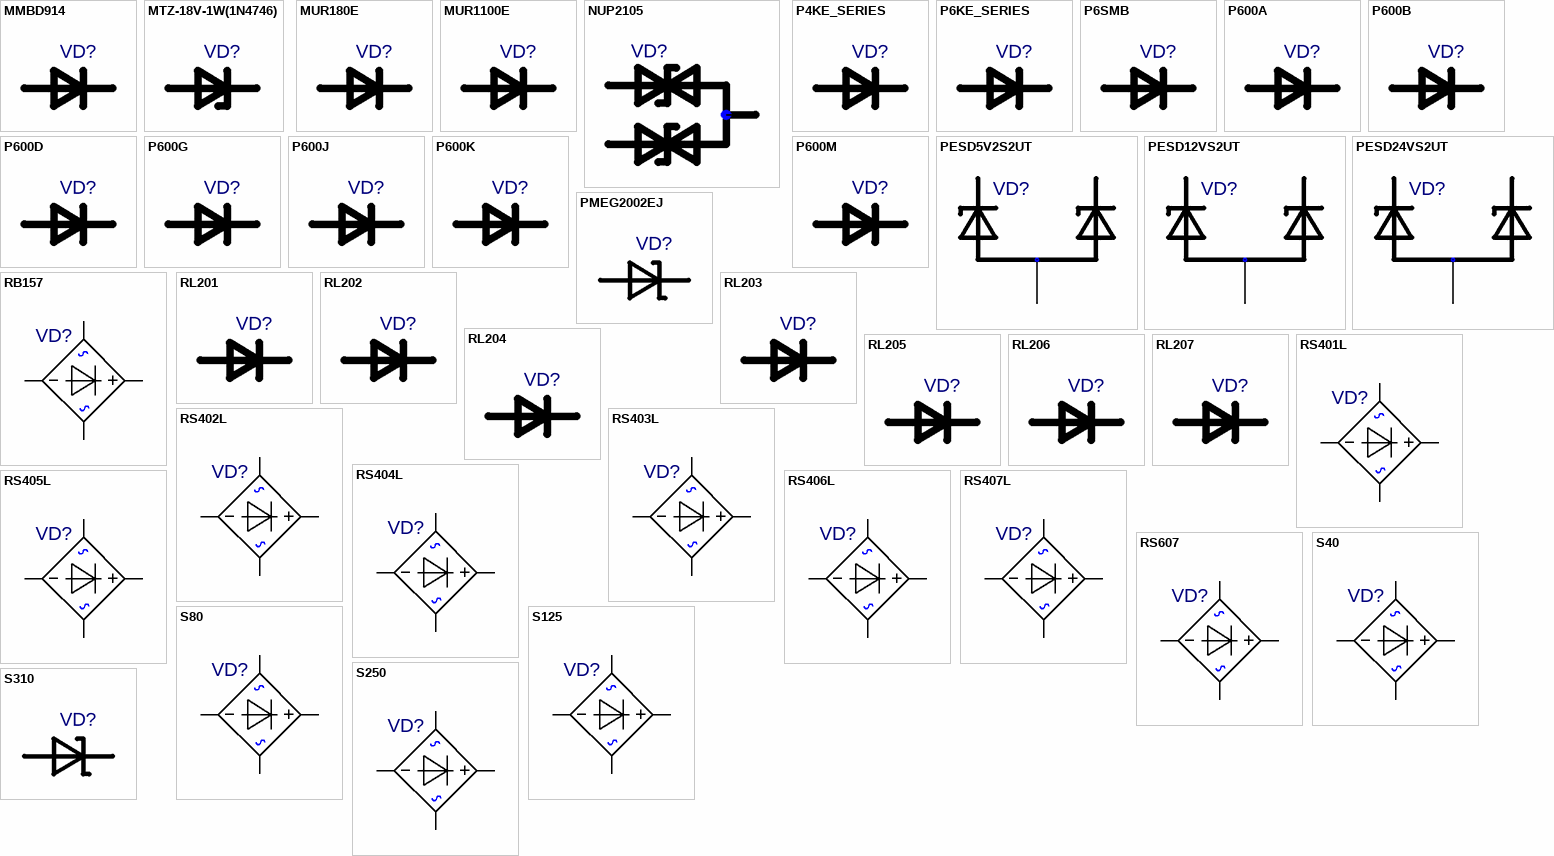
[diagram p7: symbols MMBD914 to S310]

## MMBD914
designator VD?  (value not drawn)
Value: *
footprint SOT-23
pins: 1 A, 2 hidden, 3 K

## MTZ-18V-1W(1N4746)
designator VD?  (value not drawn)
Value: *
footprint DO-41(DO-204AL)_MTZ-18V-1W(1N4746)(Primary)
pins: A, K

## MUR180E
designator VD?  (value not drawn)
Value: *
footprint DO-35
pins: 1 A, 2 K

## MUR1100E
designator VD?  (value not drawn)
Value: *
footprint DO-35
pins: 1 A, 2 K

## NUP2105
designator VD?  (value not drawn)
Value: *
footprint SOT-23
pins: 1, 2, 3

## P4KE_SERIES
designator VD?  (value not drawn)
Value: *
footprint DO-41(DO-204AL)
pins: 1 A, 2 K

## P6KE_SERIES
designator VD?  (value not drawn)
Value: *
footprint DO-15_P6KE_SERIES(Primary)
pins: A 1, K 2

## P6SMB
designator VD?  (value not drawn)
Value: *
footprint DO-214AA (SMB J-BEND)
pins: 1 A, 2 K

## P600A
designator VD?  (value not drawn)
Value: *
footprint R-5_P600A(Primary)
pins: A, K

## P600B
designator VD?  (value not drawn)
Value: *
footprint R-5_P600B(Primary)
pins: A, K

## P600D
designator VD?  (value not drawn)
Value: *
footprint R-5_P600D(Primary)
pins: A, K

## P600G
designator VD?  (value not drawn)
Value: *
footprint R-5_P600G(Primary)
pins: A, K

## P600J
designator VD?  (value not drawn)
Value: *
footprint R-5_P600J(Primary)
pins: A, K

## P600K
designator VD?  (value not drawn)
Value: *
footprint R-5_P600K(Primary)
pins: A, K

## P600M
designator VD?  (value not drawn)
Value: *
footprint R-5_P600M(Primary)
pins: A, K

## PESD5V2S2UT
designator VD?  (value not drawn)
Value: *
footprint SOT-23
pins: 1, 2, 3

## PESD12VS2UT
designator VD?  (value not drawn)
Value: *
footprint SOT-23
pins: 1, 2, 3

## PESD24VS2UT
designator VD?  (value not drawn)
Value: *
footprint SOT-23
pins: 1, 2, 3

## PMEG2002EJ
designator VD?  (value not drawn)
Value: *
footprint SOD-323_PMEG2002EJ(Primary)
pins: A 1, K 2

## RB157
designator VD?  (value not drawn)
Value: *
footprint RB157
pins: 1, 2 -, 3, 4 +

## RL201
designator VD?  (value not drawn)
Value: *
footprint DO-15_RL201(Primary)
pins: A 1, K 2

## RL202
designator VD?  (value not drawn)
Value: *
footprint DO-15_RL202(Primary)
pins: A 1, K 2

## RL203
designator VD?  (value not drawn)
Value: *
footprint DO-15_RL203(Primary)
pins: A 1, K 2

## RL204
designator VD?  (value not drawn)
Value: *
footprint DO-15_RL204(Primary)
pins: A 1, K 2

## RL205
designator VD?  (value not drawn)
Value: *
footprint DO-15_RL205(Primary)
pins: A 1, K 2

## RL206
designator VD?  (value not drawn)
Value: *
footprint DO-15_RL206(Primary)
pins: A 1, K 2

## RL207
designator VD?  (value not drawn)
Value: *
footprint DO-15_RL207(Primary)
pins: A 1, K 2

## RS401L
designator VD?  (value not drawn)
Value: *
footprint RS-4L
pins: 1 +, 2, 3, 4 -

## RS402L
designator VD?  (value not drawn)
Value: *
footprint RS-4L
pins: 1 +, 2, 3, 4 -

## RS403L
designator VD?  (value not drawn)
Value: *
footprint RS-4L
pins: 1 +, 2, 3, 4 -

## RS404L
designator VD?  (value not drawn)
Value: *
footprint RS-4L
pins: 1 +, 2, 3, 4 -

## RS405L
designator VD?  (value not drawn)
Value: *
footprint RS-4L
pins: 1 +, 2, 3, 4 -

## RS406L
designator VD?  (value not drawn)
Value: *
footprint RS-4L
pins: 1 +, 2, 3, 4 -

## RS407L
designator VD?  (value not drawn)
Value: *
footprint RS-4L
pins: 1 +, 2, 3, 4 -

## RS607
designator VD?  (value not drawn)
Value: *
footprint KBU6
pins: 1 +, 2, 3, 4 -

## S40
designator VD?  (value not drawn)
Value: *
footprint TO-269AA
pins: 1 +, 2 -, 3, 4

## S80
designator VD?  (value not drawn)
Value: *
footprint TO-269AA
pins: 1 +, 2 -, 3, 4

## S125
designator VD?  (value not drawn)
Value: *
footprint TO-269AA
pins: 1 +, 2 -, 3, 4

## S250
designator VD?  (value not drawn)
Value: *
footprint TO-269AA
pins: 1 +, 2 -, 3, 4

## S310
designator VD?  (value not drawn)
Value: *
footprint DO-214AB
pins: 1 A, 2 K

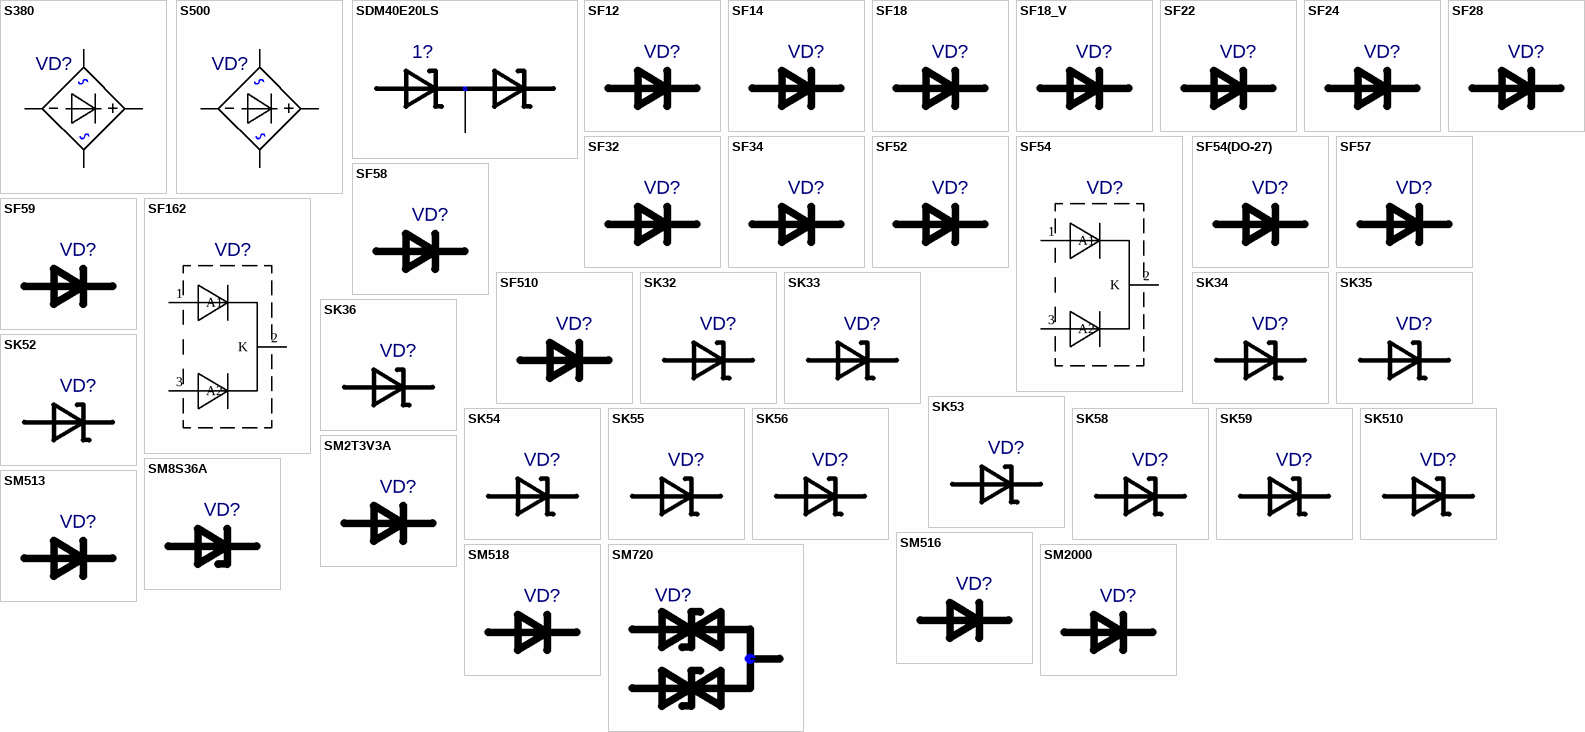
[diagram p8: symbols S380 to SM2000]

## S380
designator VD?  (value not drawn)
Value: *
footprint TO-269AA
pins: 1 +, 2 -, 3, 4

## S500
designator VD?  (value not drawn)
Value: *
footprint TO-269AA
pins: 1 +, 2 -, 3, 4

## SDM40E20LS
designator 1?  (value not drawn)
Value: *
footprint SOT-23
pins: 1, 2, 3

## SF12
designator VD?  (value not drawn)
Value: *
footprint DO-41(DO-204AL)_10MM_SF12(Primary)
pins: A 1, K 2

## SF14
designator VD?  (value not drawn)
Value: *
footprint DO-41(DO-204AL)_10MM_SF14(Primary)
pins: A 1, K 2

## SF18
designator VD?  (value not drawn)
Value: *
footprint DO-41(DO-204AL)_10MM_SF18(Primary)
pins: A 1, K 2

## SF18_V
designator VD?  (value not drawn)
Value: *
footprint DO-41(DO-204AL)_V_SF18_V(Primary)
pins: A 1, K 2

## SF22
designator VD?  (value not drawn)
Value: *
footprint DO-15_SF22(Primary)
pins: A 1, K 2

## SF24
designator VD?  (value not drawn)
Value: *
footprint DO-15_SF24(Primary)
pins: A 1, K 2

## SF28
designator VD?  (value not drawn)
Value: *
footprint DO-15_SF28(Primary)
pins: A 1, K 2

## SF32
designator VD?  (value not drawn)
Value: *
footprint DO-27_SF32(Primary)
pins: A 1, K 2

## SF34
designator VD?  (value not drawn)
Value: *
footprint DO-27_SF34(Primary)
pins: A 1, K 2

## SF52
designator VD?  (value not drawn)
Value: *
footprint DO-27_SF52(Primary)
pins: A 1, K 2

## SF54
designator VD?  (value not drawn)
Author: pcbdesigner.ru; Value: *
footprint TO220-AB-VERT
pins: 1 A1, 2 K, 3 A2

## SF54(DO-27)
designator VD?  (value not drawn)
Value: *
footprint DO-27_SF54(DO-27)(Primary)
pins: A 1, K 2

## SF57
designator VD?  (value not drawn)
Value: *
footprint DO-201AD_SF57(Primary)
pins: A, K

## SF58
designator VD?  (value not drawn)
Value: *
footprint DO-201AD_SF58(Primary)
pins: A, K

## SF59
designator VD?  (value not drawn)
Value: *
footprint DO-201AD_SF59(Primary)
pins: A, K

## SF162
designator VD?  (value not drawn)
Author: pcbdesigner.ru; Value: *
footprint TO220-AB-VERT
pins: 1 A1, 2 K, 3 A2

## SF510
designator VD?  (value not drawn)
Value: *
footprint DO-201AD_SF510(Primary)
pins: A, K

## SK32
designator VD?  (value not drawn)
Value: *
footprint SMC_SK32(Primary)
pins: A 1, K 2

## SK33
designator VD?  (value not drawn)
Value: *
footprint SMC_SK33(Primary)
pins: A 1, K 2

## SK34
designator VD?  (value not drawn)
Value: *
footprint SMC_SK34(Primary)
pins: A 1, K 2

## SK35
designator VD?  (value not drawn)
Value: *
footprint SMC_SK35(Primary)
pins: A 1, K 2

## SK36
designator VD?  (value not drawn)
Value: *
footprint SMC_SK36(Primary)
pins: A 1, K 2

## SK52
designator VD?  (value not drawn)
Value: *
footprint DO-214AB
pins: 1 A, 2 K

## SK53
designator VD?  (value not drawn)
Value: *
footprint DO-214AB
pins: 1 A, 2 K

## SK54
designator VD?  (value not drawn)
Value: *
footprint DO-214AB
pins: 1 A, 2 K

## SK55
designator VD?  (value not drawn)
Value: *
footprint DO-214AB
pins: 1 A, 2 K

## SK56
designator VD?  (value not drawn)
Value: *
footprint DO-214AB
pins: 1 A, 2 K

## SK58
designator VD?  (value not drawn)
Value: *
footprint DO-214AB
pins: 1 A, 2 K

## SK59
designator VD?  (value not drawn)
Value: *
footprint DO-214AB
pins: 1 A, 2 K

## SK510
designator VD?  (value not drawn)
Value: *
footprint DO-214AB
pins: 1 A, 2 K

## SM2T3V3A
designator VD?  (value not drawn)
Value: *
footprint DO-216AA (STMITE)
pins: 1 A, 2 K

## SM8S36A
designator VD?  (value not drawn)
Value: *
footprint SM8S36A
pins: 1 A, 2 K

## SM513
designator VD?  (value not drawn)
Value: *
footprint DO-213AB
pins: 1 K, 2 A

## SM516
designator VD?  (value not drawn)
Value: *
footprint DO-213AB
pins: 1 K, 2 A

## SM518
designator VD?  (value not drawn)
Value: *
footprint DO-213AB
pins: 1 K, 2 A

## SM720
designator VD?  (value not drawn)
Value: *
footprint SOT-23
pins: 1, 2, 3

## SM2000
designator VD?  (value not drawn)
Value: *
footprint DO-213AB
pins: 1 K, 2 A

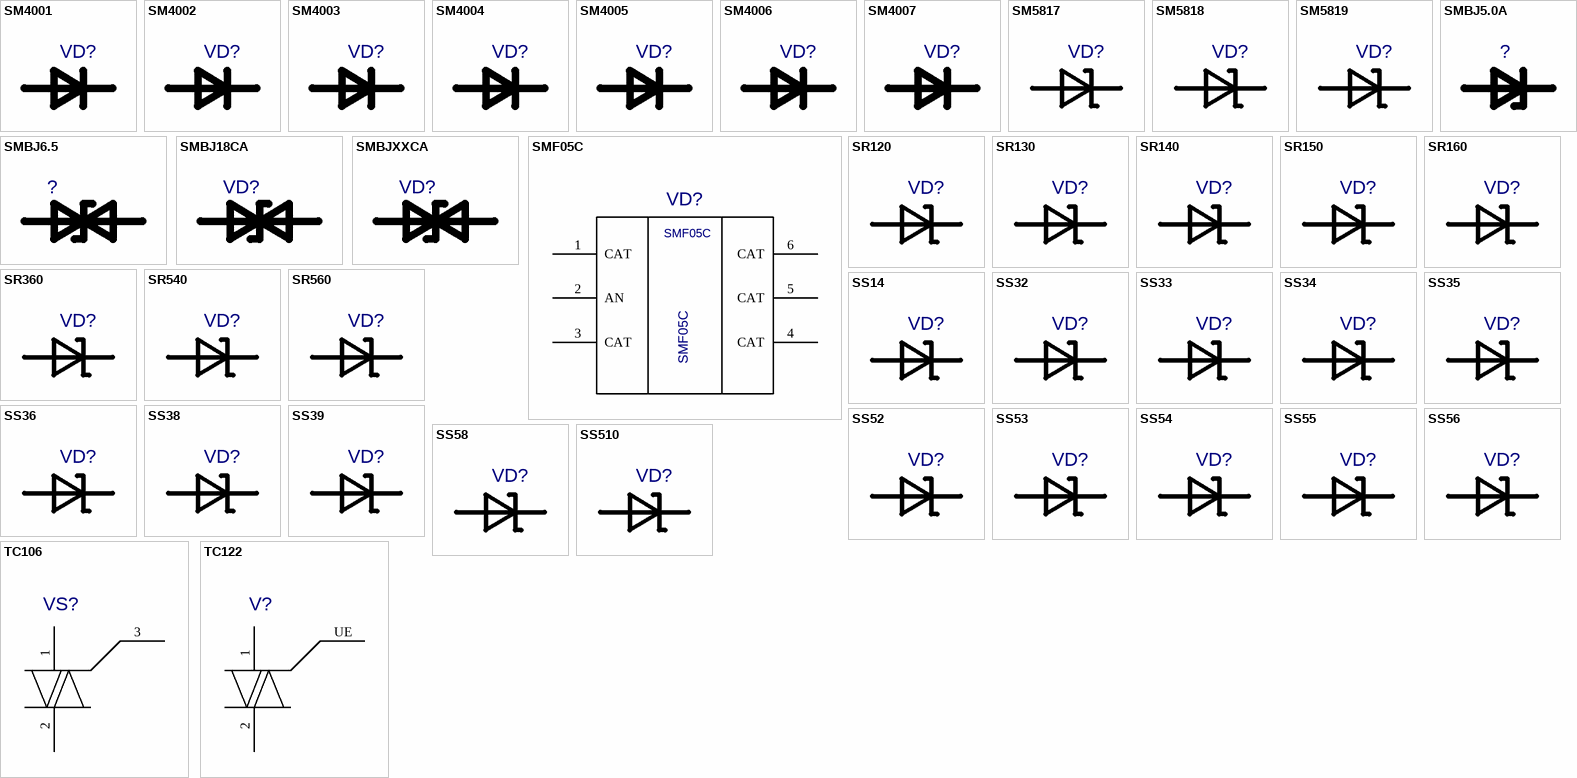
[diagram p9: symbols SM4001 to TC122]

## SM4001
designator VD?  (value not drawn)
Value: *
footprint DO-213AB
pins: 1 K, 2 A

## SM4002
designator VD?  (value not drawn)
Value: *
footprint DO-213AB
pins: 1 K, 2 A

## SM4003
designator VD?  (value not drawn)
Value: *
footprint DO-213AB
pins: 1 K, 2 A

## SM4004
designator VD?  (value not drawn)
Value: *
footprint DO-213AB
pins: 1 K, 2 A

## SM4005
designator VD?  (value not drawn)
Value: *
footprint DO-213AB
pins: 1 K, 2 A

## SM4006
designator VD?  (value not drawn)
Value: *
footprint DO-213AB
pins: 1 K, 2 A

## SM4007
designator VD?  (value not drawn)
Value: *
footprint DO-213AB
pins: 1 K, 2 A

## SM5817
designator VD?  (value not drawn)
Value: *
footprint DO-213AB
pins: 1 K, 2 A

## SM5818
designator VD?  (value not drawn)
Value: *
footprint DO-213AB
pins: 1 K, 2 A

## SM5819
designator VD?  (value not drawn)
Value: *
footprint DO-213AB
pins: 1 K, 2 A

## SMBJ5.0A
designator ?  (value not drawn)
Value: *
footprint DO-214AA
pins: 1 K, 2 A

## SMBJ6.5
designator ?  (value not drawn)
Value: *
footprint DO-214AA
pins: 1, 2

## SMBJ18CA
designator VD?  (value not drawn)
Value: *
footprint DO-214AA
pins: 1, 2

## SMBJXXCA
designator VD?  (value not drawn)
Value: *
footprint SMB
pins: 1, 2

## SMF05C
designator VD?
Value: *
footprint SC-88
pins: 1 CAT, 2 AN, 3 CAT, 4 CAT, 5 CAT, 6 CAT

## SR120
designator VD?  (value not drawn)
Value: *
footprint DO-41(DO-204AL)_10MM_SR120(Primary)
pins: A, K

## SR130
designator VD?  (value not drawn)
Value: *
footprint DO-41(DO-204AL)_10MM_SR130(Primary)
pins: A, K

## SR140
designator VD?  (value not drawn)
Value: *
footprint DO-41(DO-204AL)_10MM_SR140(Primary)
pins: A, K

## SR150
designator VD?  (value not drawn)
Value: *
footprint DO-41(DO-204AL)_10MM_SR150(Primary)
pins: A, K

## SR160
designator VD?  (value not drawn)
Value: *
footprint DO-41(DO-204AL)_10MM_SR160(Primary)
pins: A, K

## SR360
designator VD?  (value not drawn)
Value: *
footprint DO-27_SR360(Primary)
pins: A, K

## SR540
designator VD?  (value not drawn)
Value: *
footprint DO-27_SR540(Primary)
pins: A, K

## SR560
designator VD?  (value not drawn)
Value: *
footprint DO-27_SR560(Primary)
pins: A, K

## SS14
designator VD?  (value not drawn)
Value: *
footprint DO-214AA
pins: 1 K, 2 A

## SS32
designator VD?  (value not drawn)
Value: *
footprint DO-214AB
pins: 1 A, 2 K

## SS33
designator VD?  (value not drawn)
Value: *
footprint DO-214AB
pins: 1 A, 2 K

## SS34
designator VD?  (value not drawn)
Value: *
footprint DO-214AB
pins: 1 A, 2 K

## SS35
designator VD?  (value not drawn)
Value: *
footprint DO-214AB
pins: 1 A, 2 K

## SS36
designator VD?  (value not drawn)
Value: *
footprint DO-214AB
pins: 1 A, 2 K

## SS38
designator VD?  (value not drawn)
Value: *
footprint DO-214AB
pins: 1 A, 2 K

## SS39
designator VD?  (value not drawn)
Value: *
footprint DO-214AB
pins: 1 A, 2 K

## SS52
designator VD?  (value not drawn)
Value: *
footprint DO-214AB
pins: 1 A, 2 K

## SS53
designator VD?  (value not drawn)
Value: *
footprint DO-214AB
pins: 1 A, 2 K

## SS54
designator VD?  (value not drawn)
Value: *
footprint DO-214AB
pins: 1 A, 2 K

## SS55
designator VD?  (value not drawn)
Value: *
footprint DO-214AB
pins: 1 A, 2 K

## SS56
designator VD?  (value not drawn)
Value: *
footprint DO-214AB
pins: 1 A, 2 K

## SS58
designator VD?  (value not drawn)
Value: *
footprint DO-214AB
pins: 1 A, 2 K

## SS510
designator VD?  (value not drawn)
Value: *
footprint DO-214AB
pins: 1 A, 2 K

## TC106
designator VS?  (value not drawn)
Value: *
footprint KT-27_KT27A
footprint KT-27_KT27R
footprint KT-27_KT27R1
footprint KT-27_Primary
pins: 1 E1, 2 E2, 3 Ue

## TC122
designator V?  (value not drawn)
Value: *
footprint TC122_TC122(Primary)
pins: 1 E2, 2 E1, 4 hidden, 5 hidden, UE

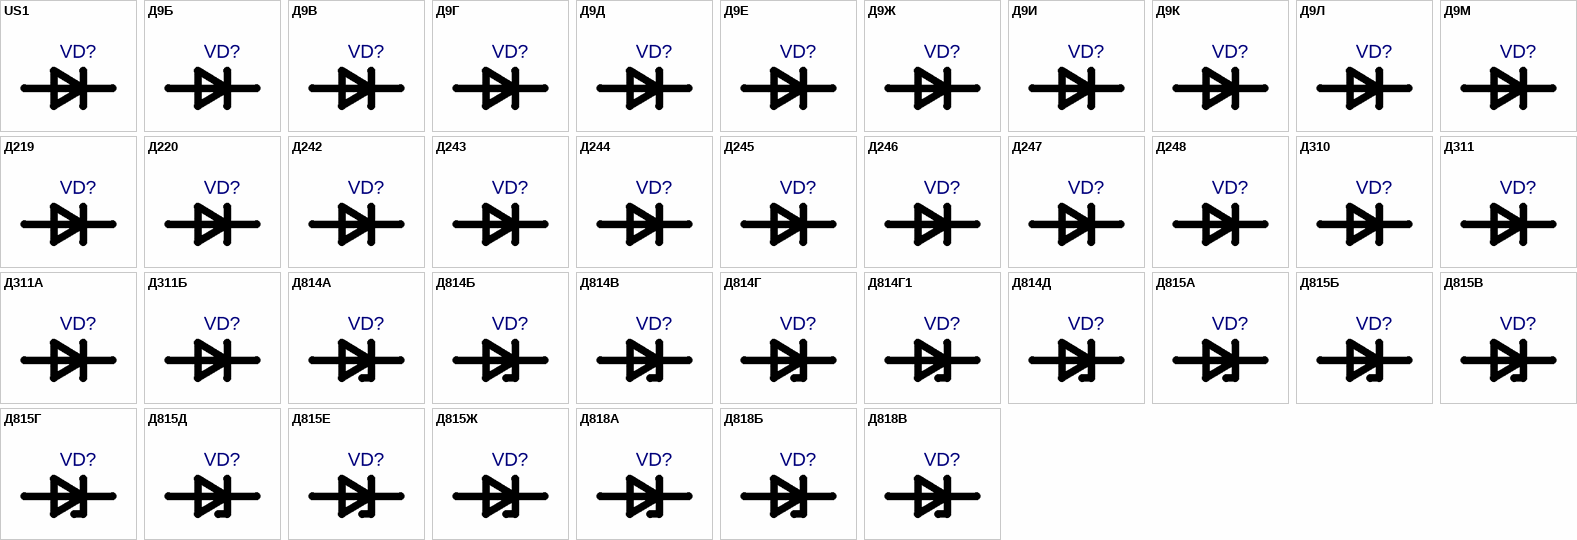
[diagram p10: symbols US1 to Д818В]

## US1
designator VD?  (value not drawn)
Value: *
footprint DO-214AA
pins: 1 K, 2 A

## Д9Б
designator VD?  (value not drawn)
Value: *
footprint Д9_Д9Б(Primary)
pins: A, K

## Д9В
designator VD?  (value not drawn)
Value: *
footprint Д9_Д9В(Primary)
pins: A, K

## Д9Г
designator VD?  (value not drawn)
Value: *
footprint Д9_Д9Г(Primary)
pins: A, K

## Д9Д
designator VD?  (value not drawn)
Value: *
footprint Д9_Д9Д(Primary)
pins: A, K

## Д9Е
designator VD?  (value not drawn)
Value: *
footprint Д9_Д9Е(Primary)
pins: A, K

## Д9Ж
designator VD?  (value not drawn)
Value: *
footprint Д9_Д9Ж(Primary)
pins: A, K

## Д9И
designator VD?  (value not drawn)
Value: *
footprint Д9_Д9И(Primary)
pins: A, K

## Д9К
designator VD?  (value not drawn)
Value: *
footprint Д9_Д9К(Primary)
pins: A, K

## Д9Л
designator VD?  (value not drawn)
Value: *
footprint Д9_Д9Л(Primary)
pins: A, K

## Д9М
designator VD?  (value not drawn)
Value: *
footprint Д9_Д9М(Primary)
pins: A, K

## Д219
designator VD?  (value not drawn)
Value: *
footprint Д219_220_Д219(Primary)
pins: A 1, K 2

## Д220
designator VD?  (value not drawn)
Value: *
footprint Д219_220_Д220(Primary)
pins: A 1, K 2

## Д242
designator VD?  (value not drawn)
Value: *
footprint Д24Х_Д242(Primary)
pins: 3 hidden, 4 hidden, A, K

## Д243
designator VD?  (value not drawn)
Value: *
footprint Д24Х_Д243(Primary)
pins: 3 hidden, 4 hidden, A, K

## Д244
designator VD?  (value not drawn)
Value: *
footprint Д24Х_Д244(Primary)
pins: 3 hidden, 4 hidden, A, K

## Д245
designator VD?  (value not drawn)
Value: *
footprint Д24Х_Д245(Primary)
pins: 3 hidden, 4 hidden, A, K

## Д246
designator VD?  (value not drawn)
Value: *
footprint Д24Х_Д246(Primary)
pins: 3 hidden, 4 hidden, A, K

## Д247
designator VD?  (value not drawn)
Value: *
footprint Д24Х_Д247(Primary)
pins: 3 hidden, 4 hidden, A, K

## Д248
designator VD?  (value not drawn)
Value: *
footprint Д24Х_Д248(Primary)
pins: 3 hidden, 4 hidden, A, K

## Д310
designator VD?  (value not drawn)
Value: *
footprint D311-0412_Д310(Primary)
pins: A, K

## Д311
designator VD?  (value not drawn)
Value: *
footprint D311-0412_Д311(Primary)
pins: A, K

## Д311А
designator VD?  (value not drawn)
Value: *
footprint D311-0412_Д311А(Primary)
pins: A, K

## Д311Б
designator VD?  (value not drawn)
Value: *
footprint D311-0412_Д311Б(Primary)
pins: A, K

## Д814А
designator VD?  (value not drawn)
Value: *
footprint Д814_Д814А(Primary)
pins: 1 A, 2 K

## Д814Б
designator VD?  (value not drawn)
Value: *
footprint Д814_Д814Б(Primary)
pins: 1 A, 2 K

## Д814В
designator VD?  (value not drawn)
Value: *
footprint Д814_Д814В(Primary)
pins: 1 A, 2 K

## Д814Г
designator VD?  (value not drawn)
Value: *
footprint Д814_Д814Г(Primary)
pins: 1 A, 2 K

## Д814Г1
designator VD?  (value not drawn)
Value: *
footprint KD-2_Д814Г1(Primary)
pins: A, K

## Д814Д
designator VD?  (value not drawn)
Value: *
footprint Д814_Д814Д(Primary)
pins: 1 A, 2 K

## Д815А
designator VD?  (value not drawn)
Value: *
footprint Д24Х_Д815А(Primary)
pins: 1 hidden, 2 hidden, A, K

## Д815Б
designator VD?  (value not drawn)
Value: *
footprint Д24Х_Д815Б(Primary)
pins: 1 hidden, 2 hidden, A, K

## Д815В
designator VD?  (value not drawn)
Value: *
footprint Д24Х_Д815В(Primary)
pins: 1 hidden, 2 hidden, A, K

## Д815Г
designator VD?  (value not drawn)
Value: *
footprint Д24Х_Д815Г(Primary)
pins: 1 hidden, 2 hidden, A, K

## Д815Д
designator VD?  (value not drawn)
Value: *
footprint Д24Х_Д815Д(Primary)
pins: 1 hidden, 2 hidden, A, K

## Д815Е
designator VD?  (value not drawn)
Value: *
footprint Д24Х_Д815Е(Primary)
pins: 1 hidden, 2 hidden, A, K

## Д815Ж
designator VD?  (value not drawn)
Value: *
footprint Д24Х_Д815Ж(Primary)
pins: 1 hidden, 2 hidden, A, K

## Д818А
designator VD?  (value not drawn)
Value: *
footprint Д818_Д818А(Primary)
pins: A, K

## Д818Б
designator VD?  (value not drawn)
Value: *
footprint Д818_Д818Б(Primary)
pins: A, K

## Д818В
designator VD?  (value not drawn)
Value: *
footprint Д818_Д818В(Primary)
pins: A, K

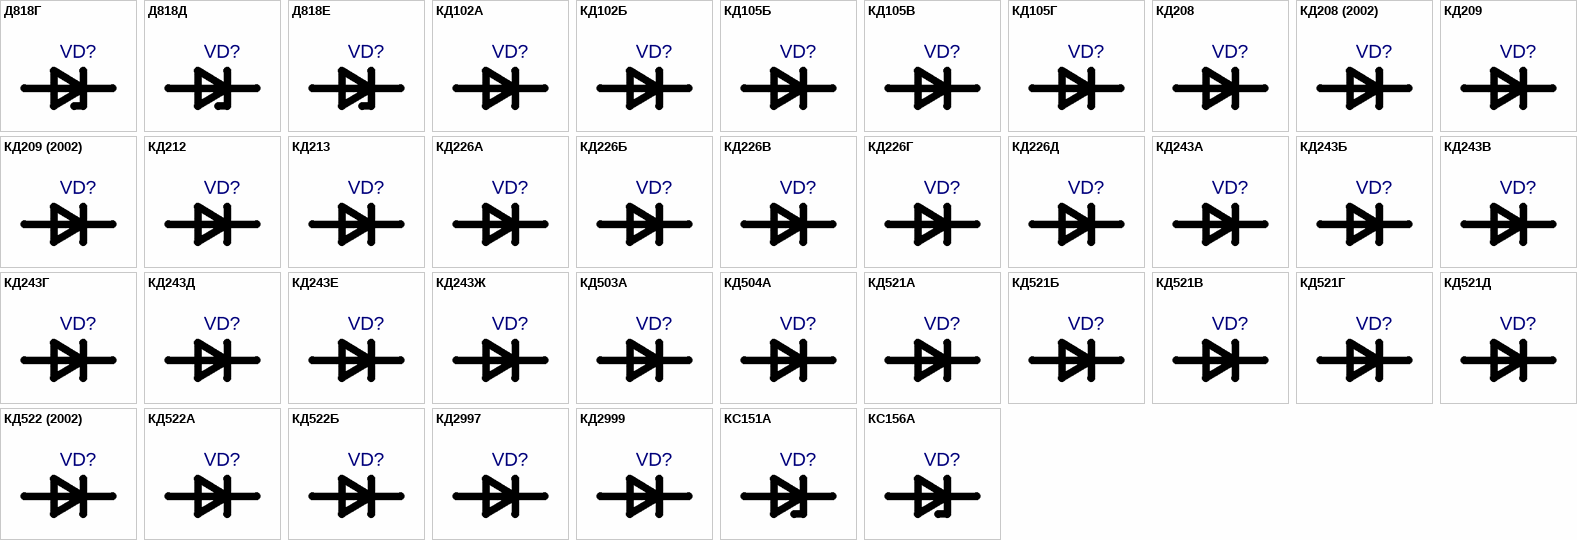
[diagram p11: symbols Д818Г to КС156А]

## Д818Г
designator VD?  (value not drawn)
Value: *
footprint Д818_Д818Г(Primary)
pins: A, K

## Д818Д
designator VD?  (value not drawn)
Value: *
footprint Д818_Д818Д(Primary)
pins: A, K

## Д818Е
designator VD?  (value not drawn)
Value: *
footprint Д818_Д818Е(Primary)
pins: A, K

## КД102А
designator VD?  (value not drawn)
Value: *
footprint КД102_КД102А(Primary)
pins: A, K

## КД102Б
designator VD?  (value not drawn)
Value: *
footprint КД102_КД102Б(Primary)
pins: A, K

## КД105Б
designator VD?  (value not drawn)
Value: *
footprint КД105_КД105Б(Primary)
pins: A, K

## КД105В
designator VD?  (value not drawn)
Value: *
footprint КД105_КД105В(Primary)
pins: A, K

## КД105Г
designator VD?  (value not drawn)
Value: *
footprint КД105_КД105Г(Primary)
pins: A, K

## КД208
designator VD?  (value not drawn)
Value: *
footprint KD208_KD209
pins: 1 A, 2 K

## КД208 (2002)
designator VD?  (value not drawn)
Value: *
footprint KD208_KD209_2002
pins: 1 A, 2 K

## КД209
designator VD?  (value not drawn)
Value: *
footprint KD208_KD209
pins: 1 A, 2 K

## КД209 (2002)
designator VD?  (value not drawn)
Value: *
footprint KD208_KD209_2002
pins: 1 A, 2 K

## КД212
designator VD?  (value not drawn)
Value: *
footprint 8X4S5_КД212(Primary)
pins: 1 A, 2 K

## КД213
designator VD?  (value not drawn)
Value: *
footprint КД213_КД213(Primary)
pins: A, K

## КД226А
designator VD?  (value not drawn)
Value: *
footprint КД226_КД226А(KD213-1)
footprint КД226_КД226А(Primary)
pins: 1 A, 2 K

## КД226Б
designator VD?  (value not drawn)
Value: *
footprint КД226_КД226Б(KD213-1)
footprint КД226_КД226Б(Primary)
pins: 1 A, 2 K

## КД226В
designator VD?  (value not drawn)
Value: *
footprint КД226_КД226В(KD213-1)
footprint КД226_КД226В(Primary)
pins: 1 A, 2 K

## КД226Г
designator VD?  (value not drawn)
Value: *
footprint КД226_КД226Г(KD213-1)
footprint КД226_КД226Г(Primary)
pins: 1 A, 2 K

## КД226Д
designator VD?  (value not drawn)
Value: *
footprint КД226_КД226Д(KD213-1)
footprint КД226_КД226Д(Primary)
pins: 1 A, 2 K

## КД243А
designator VD?  (value not drawn)
Value: *
footprint КД243_КД243А(Primary)
pins: A, K

## КД243Б
designator VD?  (value not drawn)
Value: *
footprint КД243_КД243Б(Primary)
pins: A, K

## КД243В
designator VD?  (value not drawn)
Value: *
footprint КД243_КД243В(Primary)
pins: A, K

## КД243Г
designator VD?  (value not drawn)
Value: *
footprint КД243_КД243Г(Primary)
pins: A, K

## КД243Д
designator VD?  (value not drawn)
Value: *
footprint КД243_КД243Д(Primary)
pins: A, K

## КД243Е
designator VD?  (value not drawn)
Value: *
footprint КД243_КД243Е(Primary)
pins: A, K

## КД243Ж
designator VD?  (value not drawn)
Value: *
footprint КД243_КД243Ж(Primary)
pins: A, K

## КД503А
designator VD?  (value not drawn)
Value: *
footprint КД503А_КД503А(Primary)
pins: A, K

## КД504А
designator VD?  (value not drawn)
Value: *
footprint КД504А-0412_КД504А(Primary)
pins: A, K

## КД521А
designator VD?  (value not drawn)
Value: *
footprint КД521(522)_КД521А(12.5mm)
footprint КД521(522)_КД521А(15mm)
footprint КД521(522)_КД521А(2.5mm_v)
footprint КД521(522)_КД521А(5mm_v1)
footprint КД521(522)_КД521А(5mm_v2)
footprint КД521(522)_КД521А(7.5mm)
footprint КД521(522)_КД521А(Primary)
pins: 1 A, 2 K

## КД521Б
designator VD?  (value not drawn)
Value: *
footprint КД521(522)_КД521Б(12.5mm)
footprint КД521(522)_КД521Б(15mm)
footprint КД521(522)_КД521Б(2.5mm_v)
footprint КД521(522)_КД521Б(5mm_v1)
footprint КД521(522)_КД521Б(5mm_v2)
footprint КД521(522)_КД521Б(7.5mm)
footprint КД521(522)_КД521Б(Primary)
pins: 1 A, 2 K

## КД521В
designator VD?  (value not drawn)
Value: *
footprint КД521(522)_КД521В(12.5mm)
footprint КД521(522)_КД521В(15mm)
footprint КД521(522)_КД521В(2.5mm_v)
footprint КД521(522)_КД521В(5mm_v1)
footprint КД521(522)_КД521В(5mm_v2)
footprint КД521(522)_КД521В(7.5mm)
footprint КД521(522)_КД521В(Primary)
pins: 1 A, 2 K

## КД521Г
designator VD?  (value not drawn)
Value: *
footprint КД521(522)_КД521Г(12.5mm)
footprint КД521(522)_КД521Г(15mm)
footprint КД521(522)_КД521Г(2.5mm_v)
footprint КД521(522)_КД521Г(5mm_v1)
footprint КД521(522)_КД521Г(5mm_v2)
footprint КД521(522)_КД521Г(7.5mm)
footprint КД521(522)_КД521Г(Primary)
pins: 1 A, 2 K

## КД521Д
designator VD?  (value not drawn)
Value: *
footprint КД521(522)_КД521Д(12.5mm)
footprint КД521(522)_КД521Д(15mm)
footprint КД521(522)_КД521Д(2.5mm_v)
footprint КД521(522)_КД521Д(5mm_v1)
footprint КД521(522)_КД521Д(5mm_v2)
footprint КД521(522)_КД521Д(7.5mm)
footprint КД521(522)_КД521Д(Primary)
pins: 1 A, 2 K

## КД522 (2002)
designator VD?  (value not drawn)
Value: *
footprint КД522 (2002)_КД522 (2002)(Primary)
pins: A 1, K 2

## КД522А
designator VD?  (value not drawn)
Value: *
footprint КД521(522)_КД522А(12.5mm)
footprint КД521(522)_КД522А(15mm)
footprint КД521(522)_КД522А(2.5mm_v)
footprint КД521(522)_КД522А(5mm_v1)
footprint КД521(522)_КД522А(5mm_v2)
footprint КД521(522)_КД522А(7.5mm)
footprint КД521(522)_КД522А(Primary)
pins: 1 A, 2 K

## КД522Б
designator VD?  (value not drawn)
Value: *
footprint КД521(522)_КД522Б(12.5mm)
footprint КД521(522)_КД522Б(15mm)
footprint КД521(522)_КД522Б(2.5mm_v)
footprint КД521(522)_КД522Б(5mm_v1)
footprint КД521(522)_КД522Б(5mm_v2)
footprint КД521(522)_КД522Б(7.5mm)
footprint КД521(522)_КД522Б(Primary)
pins: 1 A, 2 K

## КД2997
designator VD?  (value not drawn)
Value: *
footprint КД2997_КД2997(Primary)
pins: A, K

## КД2999
designator VD?  (value not drawn)
Value: *
footprint КД2999_КД2999(Primary)
pins: A, K

## КС151А
designator VD?  (value not drawn)
Value: *
footprint KC515A_КС151А(Primary)
pins: A, K

## КС156А
designator VD?  (value not drawn)
Value: *
footprint КС175Ж_КС156А(Primary)
pins: A, K

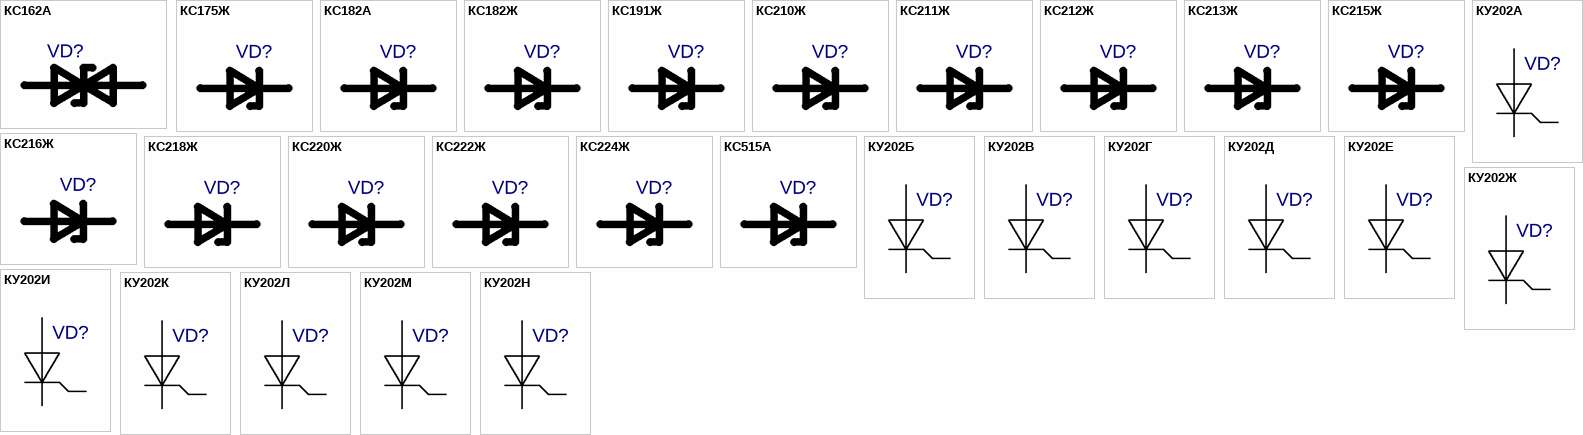
[diagram p12: symbols КС162А to КУ202Н]

## КС162А
designator VD?  (value not drawn)
Value: *
footprint КД-25
pins: 1, 2

## КС175Ж
designator VD?  (value not drawn)
Value: *
footprint KD-2_КС175Ж(Primary)
pins: A 1, K 2

## КС182А
designator VD?  (value not drawn)
Value: *
footprint 8X4S5_КС182А(Primary)
pins: 1 A, 2 K

## КС182Ж
designator VD?  (value not drawn)
Value: *
footprint KD-2_КС182Ж(Primary)
pins: A 1, K 2

## КС191Ж
designator VD?  (value not drawn)
Value: *
footprint KD-2_КС191Ж(Primary)
pins: A 1, K 2

## КС210Ж
designator VD?  (value not drawn)
Value: *
footprint KD-2_КС210Ж(Primary)
pins: A 1, K 2

## КС211Ж
designator VD?  (value not drawn)
Value: *
footprint KD-2_КС211Ж(Primary)
pins: A 1, K 2

## КС212Ж
designator VD?  (value not drawn)
Value: *
footprint KD-2_КС212Ж(Primary)
pins: A 1, K 2

## КС213Ж
designator VD?  (value not drawn)
Value: *
footprint KD-2_КС213Ж(Primary)
pins: A 1, K 2

## КС215Ж
designator VD?  (value not drawn)
Value: *
footprint KD-2_КС215Ж(Primary)
pins: A 1, K 2

## КС216Ж
designator VD?  (value not drawn)
Value: *
footprint KD-2_КС216Ж(Primary)
pins: A 1, K 2

## КС218Ж
designator VD?  (value not drawn)
Value: *
footprint KD-2_КС218Ж(Primary)
pins: A 1, K 2

## КС220Ж
designator VD?  (value not drawn)
Value: *
footprint KD-2_КС220Ж(Primary)
pins: A 1, K 2